# Altium schematic symbol library Ancient Schematics.SchLib: 609 symbols (part 2 of 3)
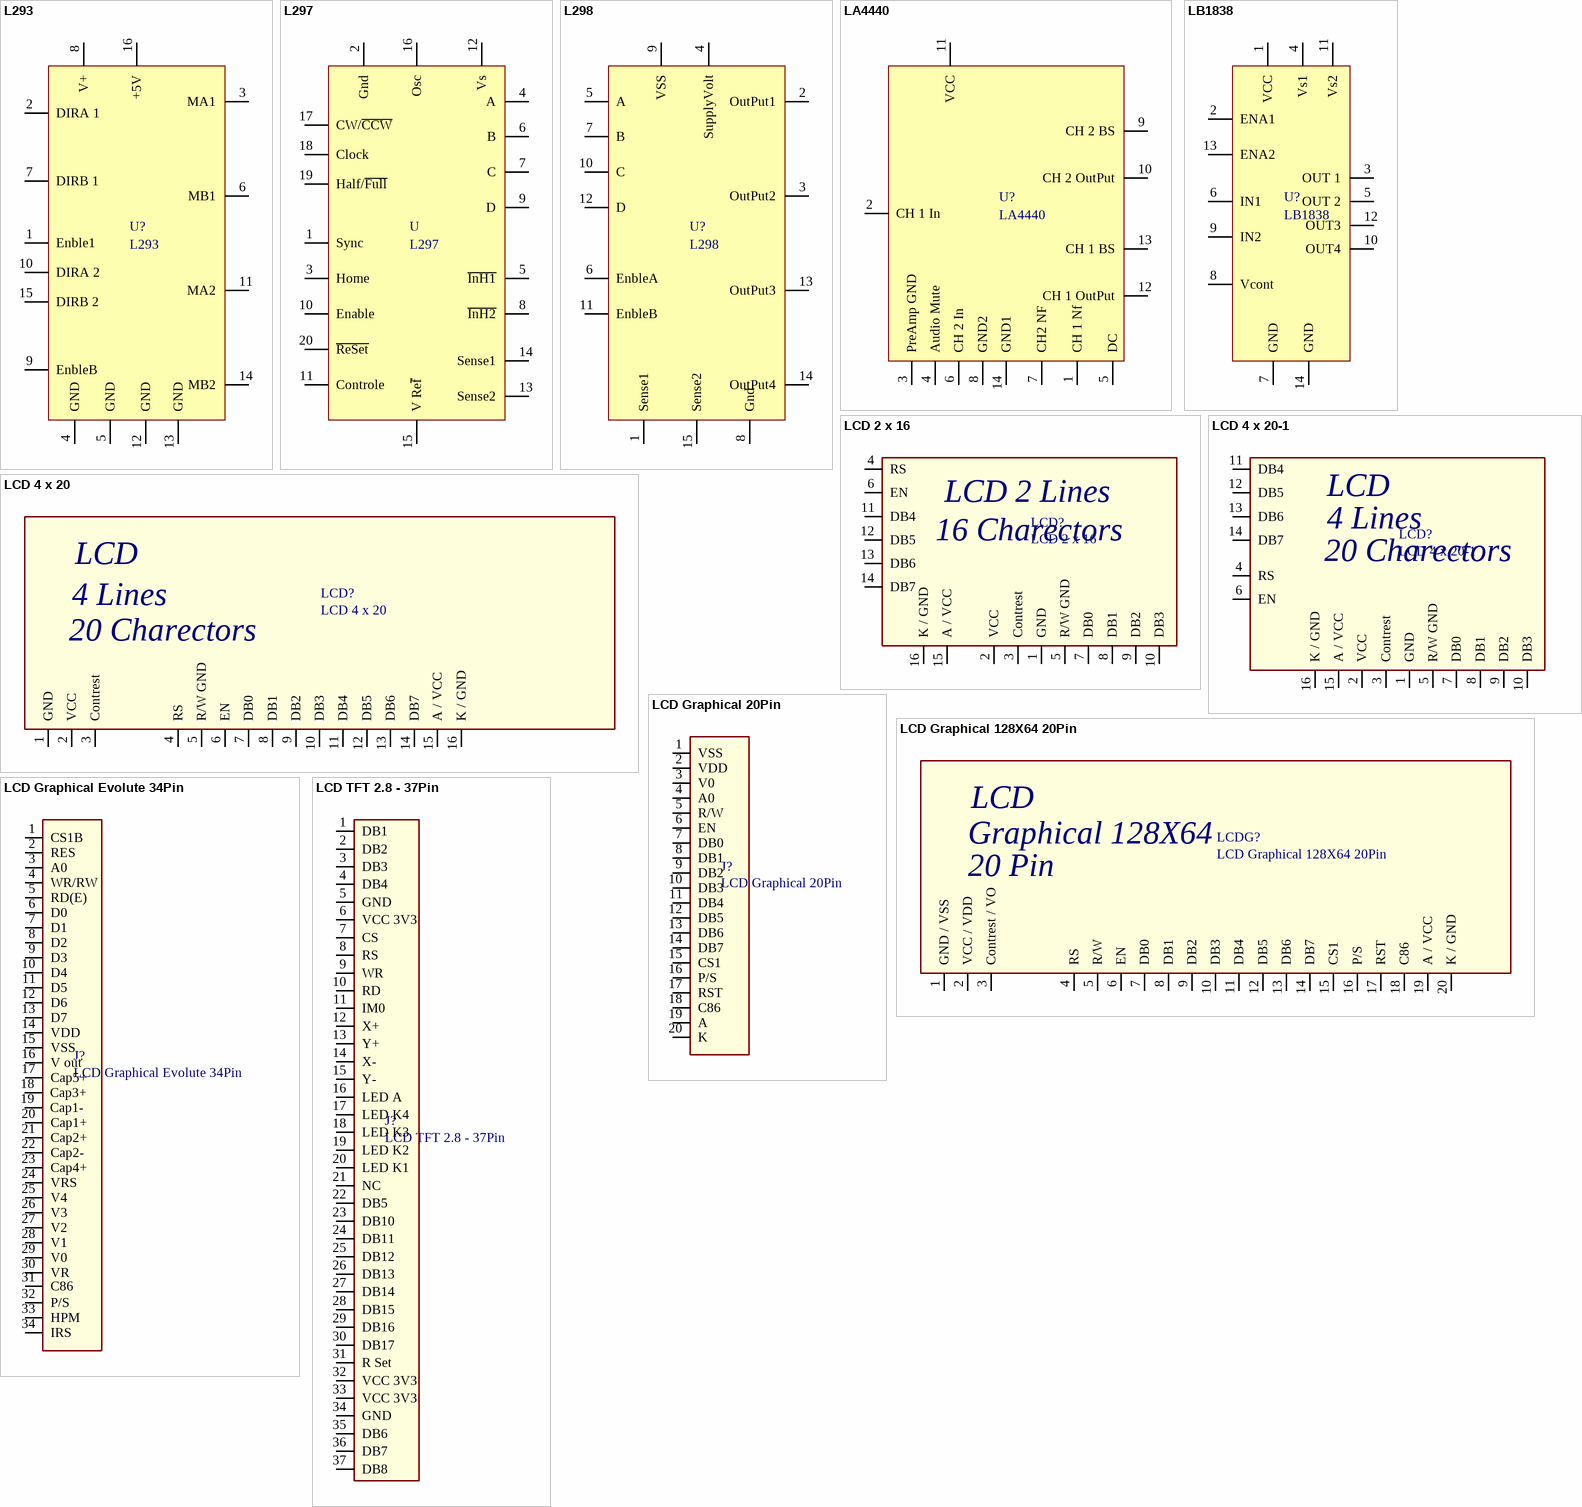
[diagram p45: symbols L293 to LCD TFT 2.8 - 37Pin]

## LCD Graphical 20Pin
designator J?
footprint LCD-Graphical-JHD12864E (Graphical LCD-18thApril2011)
pins: 1 VSS, 2 VDD, 3 V0, 4 A0, 5 R/W, 6 EN, 7 DB0, 8 DB1, 9 DB2, 10 DB3, 11 DB4, 12 DB5, 13 DB6, 14 DB7, 15 CS1, 16 P/S, 17 RST, 18 C86, 19 A, 20 K

## LCD Graphical 128X64 20Pin
designator LCDG?
footprint LCD-Graphical-JHD12864E-Connector Top (Graphical LCD-5thDec2011)
pins: 1 GND / VSS, 2 VCC / VDD, 3 Contrest / VO, 4 RS, 5 R/W, 6 EN, 7 DB0, 8 DB1, 9 DB2, 10 DB3, 11 DB4, 12 DB5, 13 DB6, 14 DB7, 15 CS1, 16 P/S, 17 RST, 18 C86, 19 A / VCC, 20 K / GND
text: LCD; Graphical 128X64; 20 Pin

## LCD Graphical Evolute 34Pin
designator J?
footprint LCD-Graphical-JHD12864E (Graphical LCD-18thApril2011)
pins: 1 CS1B, 2 RES, 3 A0, 4 WR/RW, 5 RD(E), 6 D0, 7 D1, 8 D2, 9 D3, 10 D4, 11 D5, 12 D6, 13 D7, 14 VDD, 15 VSS, 16 V out, 17 Cap5+, 18 Cap3+, 19 Cap1-, 20 Cap1+, 21 Cap2+, 22 Cap2-, 23 Cap4+, 24 VRS, 25 V4, 26 V3, 27 V2, 28 V1, 29 V0, 30 VR, 31 C86, 32 P/S, 33 HPM, 34 IRS

## LCD TFT 2.8 - 37Pin
designator J?
footprint LCD-TFT2.8 VT28CQH02 (LCD-TFT2.8 Inch VT28CQH02)
pins: 1 DB1, 2 DB2, 3 DB3, 4 DB4, 5 GND, 6 VCC 3V3, 7 CS, 8 RS, 9 WR, 10 RD, 11 IM0, 12 X+, 13 Y+, 14 X-, 15 Y-, 16 LED A, 17 LED K4, 18 LED K3, 19 LED K2, 20 LED K1, 21 NC, 22 DB5, 23 DB10, 24 DB11, 25 DB12, 26 DB13, 27 DB14, 28 DB15, 29 DB16, 30 DB17, 31 R Set, 32 VCC 3V3, 33 VCC 3V3, 34 GND, 35 DB6, 36 DB7, 37 DB8

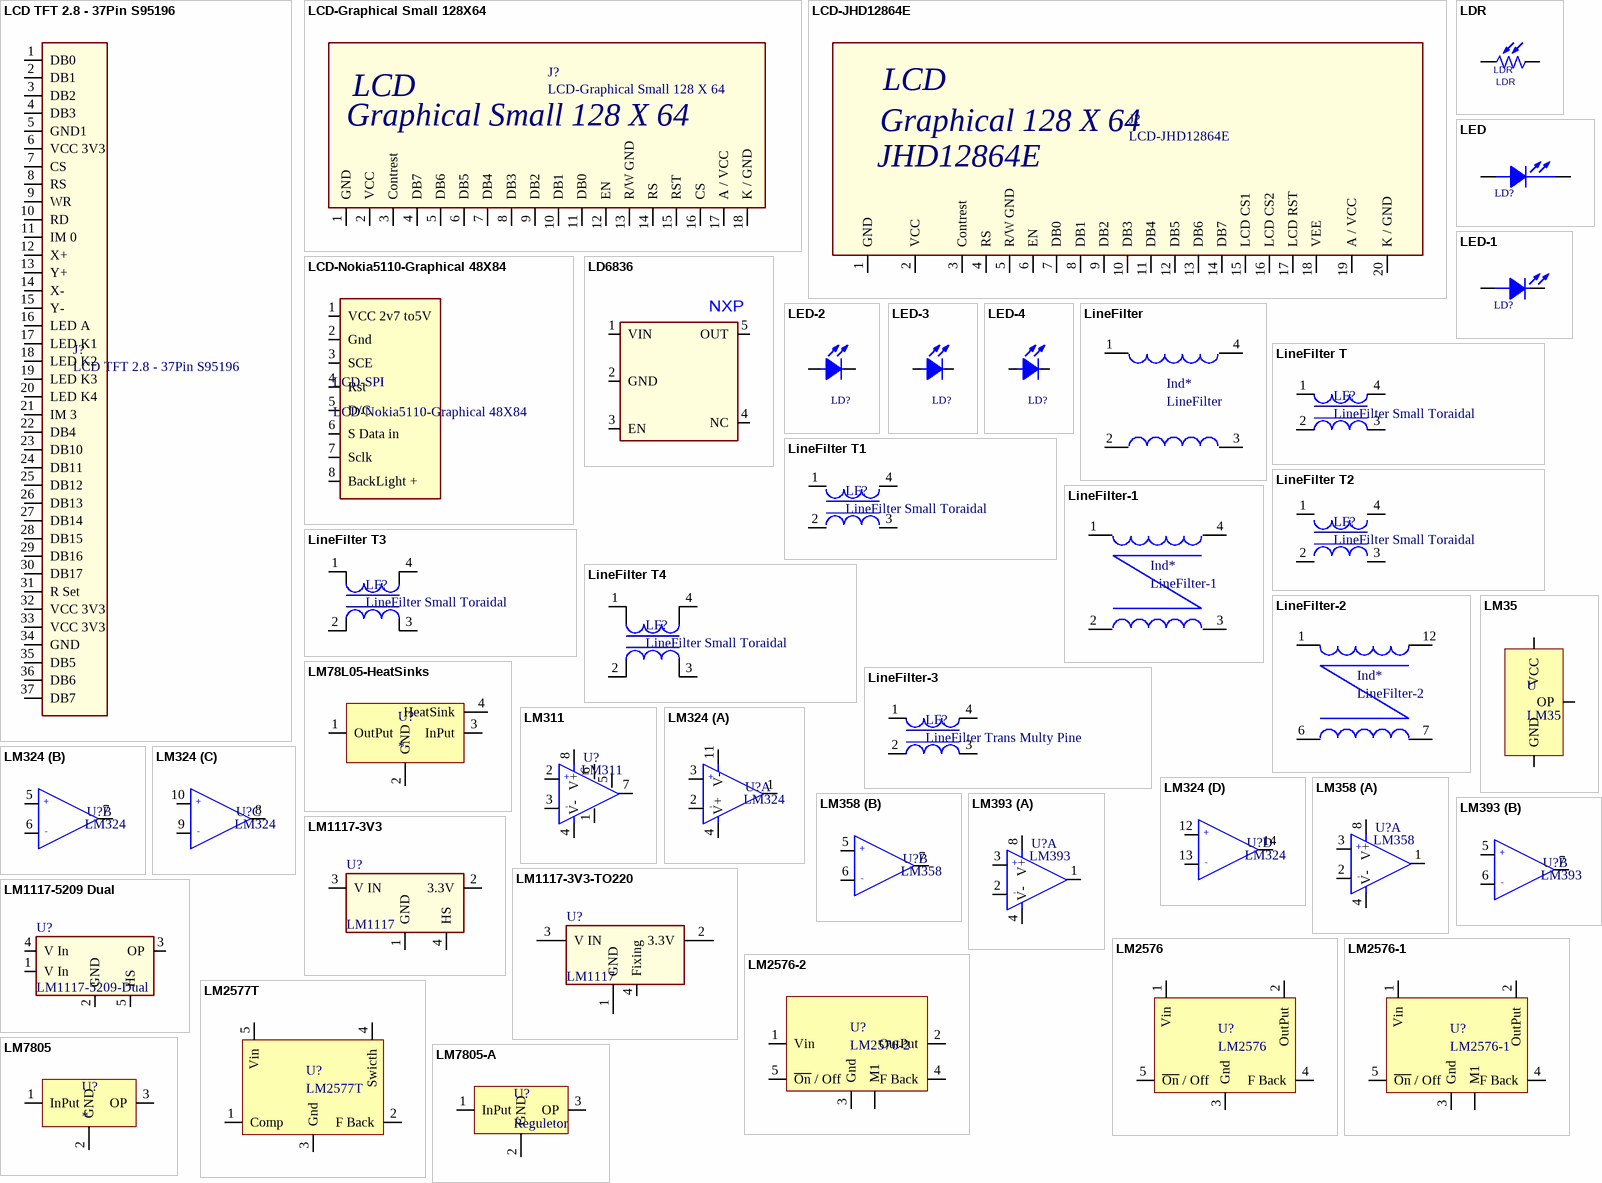
[diagram p18: symbols LCD TFT 2.8 - 37Pin S95196 to LM7805-A]

## LCD TFT 2.8 - 37Pin S95196
designator J?
LCD TFT 2.8 - 37Pin S95196 With Touch Screen
footprint LCD-TFT2.8 VT28CQH02 (LCD-TFT2.8 Inch VT28CQH02)
pins: 1 DB0, 2 DB1, 3 DB2, 4 DB3, 5 GND1, 6 VCC 3V3, 7 CS, 8 RS, 9 WR, 10 RD, 11 IM 0, 12 X+, 13 Y+, 14 X-, 15 Y-, 16 LED A, 17 LED K1, 18 LED K2, 19 LED K3, 20 LED K4, 21 IM 3, 22 DB4, 23 DB10, 24 DB11, 25 DB12, 26 DB13, 27 DB14, 28 DB15, 29 DB16, 30 DB17, 31 R Set, 32 VCC 3V3, 33 VCC 3V3, 34 GND, 35 DB5, 36 DB6, 37 DB7

## LCD-Graphical Small 128X64
designator J?, comment LCD-Graphical Small 128 X 64
pins: 1 GND, 2 VCC, 3 Contrest, 4 DB7, 5 DB6, 6 DB5, 7 DB4, 8 DB3, 9 DB2, 10 DB1, 11 DB0, 12 EN, 13 R/W GND, 14 RS, 15 RST, 16 CS, 17 A / VCC, 18 K / GND
text: LCD; Graphical Small 128 X 64

## LCD-JHD12864E
designator J?
footprint LCD-Graphical-JHD12864E-Connector Bottom (Graphical LCD-25thApril2011)
pins: 1 GND, 2 VCC, 3 Contrest, 4 RS, 5 R/W GND, 6 EN, 7 DB0, 8 DB1, 9 DB2, 10 DB3, 11 DB4, 12 DB5, 13 DB6, 14 DB7, 15 LCD CS1, 16 LCD CS2, 17 LCD RST, 18 VEE, 19 A / VCC, 20 K / GND
text: LCD; Graphical 128 X 64; JHD12864E

## LCD-Nokia5110-Graphical 48X84
designator LCD-SPI
pins: 1 VCC 2v7 to5V, 2 Gnd, 3 SCE, 4 Rst, 5 D/C, 6 S Data in, 7 Sclk, 8 BackLight +

## LD6836
designator U?
pins: 1 VIN, 2 GND, 3 EN, 4 NC, 5 OUT
text: NXP

## LDR
designator LDR
footprint LED5MM (Footprint not found)
pins: 1, 2

## LED
designator LD?  (value not drawn)
footprint LED3MM
pins: 1 ANODE, 2 CATHODE

## LED-1
designator LD?  (value not drawn)
footprint LED3MM
pins: 1 ANODE, 2 CATHODE

## LED-2
designator LD?, comment LED  (value not drawn)
footprint LED3MM
footprint 1206-LED-Mid (1206-LED)
footprint 1206-LED-small (1206-LED)
pins: 1 ANODE, 2 CATHODE

## LED-3
designator LD?, comment LED  (value not drawn)
footprint LED3MM
footprint 1206-LED-Mid (1206-LED)
footprint 1206-LED-small (1206-LED)
pins: 1 ANODE, 2 CATHODE

## LED-4
designator LD?, comment LED  (value not drawn)
pins: 1 ANODE, 2 CATHODE

## LineFilter
designator Ind*
pins: 1, 2, 3, 4

## LineFilter T
designator LF?, comment LineFilter Small Toraidal
pins: 1, 2, 3, 4

## LineFilter T1
designator LF?, comment LineFilter Small Toraidal
pins: 1, 2, 3, 4

## LineFilter T2
designator LF?, comment LineFilter Small Toraidal
pins: 1, 2, 3, 4

## LineFilter T3
designator LF?, comment LineFilter Small Toraidal
pins: 1, 2, 3, 4

## LineFilter T4
designator LF?, comment LineFilter Small Toraidal
pins: 1, 2, 3, 4

## LineFilter-1
designator Ind*
pins: 1, 2, 3, 4

## LineFilter-2
designator Ind*
footprint FerretCore EE 55 X 55 X 20MM-12Pins
pins: 1, 2, 5, 6, 7, 8, 11, 12

## LineFilter-3
designator LF?, comment LineFilter Trans Multy Pine
LineFilter Trans Multy Pins 8Pins
footprint EE36 X 29 VERTICAL 4PINS-Multy (Line Filter EE36 X 29 VERTICAL 4PINS-Multy)
pins: 1, 2, 3, 4, 5, 6, 7, 8

## LM35
designator U
footprint TO92-LM35-Leaded
pins: 1 VCC, 2 OP, 3 GND

## LM78L05-HeatSinks
designator U?
footprint SOT223-2 (SOT223-2 Regulators LM1117)
pins: 1 OutPut, 2 GND, 3 InPut, 4 HeatSink

## LM311
designator U?
footprint Dip-8
pins: 1 OUT, 2 IN+, 3 IN-, 4 V-, 5, 6, 7 OUT, 8 V+
text: +; -

## LM324
designator U?
footprint Dip-14
part A pins: 1 OUT, 2 IN-, 3 IN+, 4 V+, 11 V-
part B pins: 5 IN+, 6 IN-, 7 OUT
part C pins: 8 3OUT, 9 IN-, 10 IN+
part D pins: 12 IN+, 13 IN-, 14 4OUT
part A text: +; -
part B text: +; -
part C text: +; -
part D text: +; -

## LM358
designator U?
footprint Dip-8
part A pins: 1 OUT, 2 IN-, 3 IN+, 4 V-, 8 V+
part B pins: 5 IN+, 6 IN-, 7 OUT
part A text: +; -
part B text: +; -

## LM393
designator U?
footprint Dip-8
part A pins: 1 OUT, 2 IN-, 3 IN+, 4 V-, 8 V+
part B pins: 5 IN+, 6 IN-, 7 OUT
part A text: +; -
part B text: +; -

## LM1117-3V3
designator U?, comment LM1117
pins: 1 GND, 2 3.3V, 3 V IN, 4 HS

## LM1117-3V3-TO220
designator U?, comment LM1117
footprint TO220-3Pin-SMD
pins: 1 GND, 2 3.3V, 3 V IN, 4 Fixing

## LM1117-5209 Dual
designator U?, comment LM1117-5209-Dual
footprint SOT223-DUAL-Reg (5209 / LM1117 /)
pins: 1 V In, 2 GND, 3 OP, 4 V In, 5 HS

## LM2576
designator U?
footprint TO220-5 LM2576 (Footprint not found)
pins: 1 Vin, 2 OutPut, 3 Gnd, 4 F Back, 5 ~{On} / Off

## LM2576-1
designator U?
LM2576
footprint TO220-5 LM2576 (Footprint not found)
pins: 1 Vin, 2 OutPut, 3 Gnd, 4 F Back, 5 ~{On} / Off, M1

## LM2576-2
designator U?
LM2576
footprint TO220-5 LM2576 (Footprint not found)
pins: 1 Vin, 2 OutPut, 3 Gnd, 4 F Back, 5 ~{On} / Off, M1

## LM2577T
designator U?
footprint TO220-5 LM2577 (Footprint not found)
pins: 1 Comp, 2 F Back, 3 Gnd, 4 Swicth, 5 Vin

## LM7805
designator U?
pins: 1 InPut, 2 GND, 3 OP

## LM7805-A
designator U?, comment Reguletor
footprint TO220-3Pin - (TO220-3Pin)
pins: 1 InPut, 2 GND, 3 OP

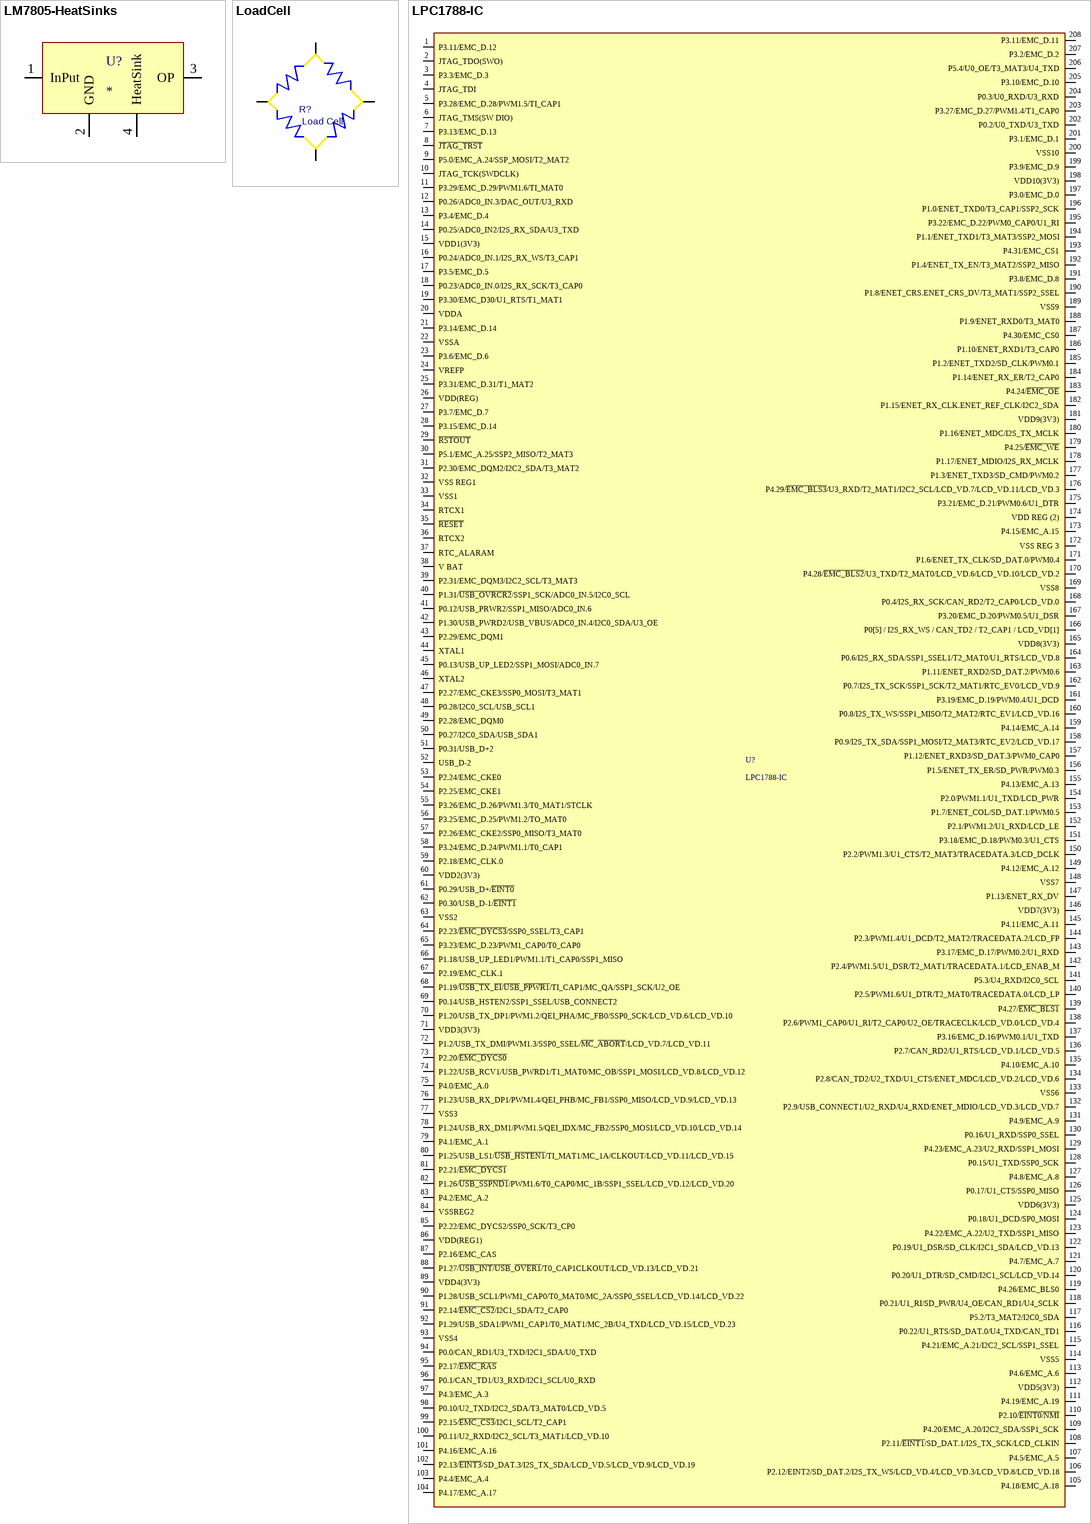
[diagram p19: symbols LM7805-HeatSinks to LPC1788-IC]

## LM7805-HeatSinks
designator U?
pins: 1 InPut, 2 GND, 3 OP, 4 HeatSink

## LoadCell
designator R?, comment Load Cell
footprint ResH10MM
footprint RMC4W (RMC4Way Connector 2.54Picth)
pins: 1, 2 E+, 3 E-, 4

## LPC1788-IC
designator U?
pins: 1 P3.11/EMC_D.12, 2 JTAG_TDO(SWO), 3 P3.3/EMC_D.3, 4 JTAG_TDI, 5 P3.28/EMC_D.28/PWM1.5/TI_CAP1, 6 JTAG_TMS(SW DIO), 7 P3.13/EMC_D.13, 8 ~{JTAG_TRST}, 9 P5.0/EMC_A.24/SSP_MOSI/T2_MAT2, 10 JTAG_TCK(SWDCLK), 11 P3.29/EMC_D.29/PWM1.6/TI_MAT0, 12 P0.26/ADC0_IN.3/DAC_OUT/U3_RXD, 13 P3.4/EMC_D.4, 14 P0.25/ADC0_IN2/I2S_RX_SDA/U3_TXD, 15 VDD1(3V3), 16 P0.24/ADC0_IN.1/I2S_RX_WS/T3_CAP1, 17 P3.5/EMC_D.5, 18 P0.23/ADC0_IN.0/I2S_RX_SCK/T3_CAP0, 19 P3.30/EMC_D30/U1_RTS/T1_MAT1, 20 VDDA, 21 P3.14/EMC_D.14, 22 VSSA, 23 P3.6/EMC_D.6, 24 VREFP, 25 P3.31/EMC_D.31/T1_MAT2, 26 VDD(REG), 27 P3.7/EMC_D.7, 28 P3.15/EMC_D.14, 29 ~{RSTOUT}, 30 P5.1/EMC_A.25/SSP2_MISO/T2_MAT3, 31 P2.30/EMC_DQM2/I2C2_SDA/T3_MAT2, 32 VSS REG1, 33 VSS1, 34 RTCX1, 35 ~{RESET}, 36 RTCX2, 37 RTC_ALARAM, 38 V BAT, 39 P2.31/EMC_DQM3/I2C2_SCL/T3_MAT3, 40 P1.31/~{USB_OVRCR2}/SSP1_SCK/ADC0_IN.5/I2C0_SCL, 41 P0.12/USB_PRWR2/SSP1_MISO/ADC0_IN.6, 42 P1.30/USB_PWRD2/USB_VBUS/ADC0_IN.4/I2C0_SDA/U3_OE, 43 P2.29/EMC_DQM1, 44 XTAL1, 45 P0.13/USB_UP_LED2/SSP1_MOSI/ADC0_IN.7, 46 XTAL2, 47 P2.27/EMC_CKE3/SSP0_MOSI/T3_MAT1, 48 P0.28/I2C0_SCL/USB_SCL1, 49 P2.28/EMC_DQM0, 50 P0.27/I2C0_SDA/USB_SDA1, 51 P0.31/USB_D+2, 52 USB_D-2, 53 P2.24/EMC_CKE0, 54 P2.25/EMC_CKE1, 55 P3.26/EMC_D.26/PWM1.3/T0_MAT1/STCLK, 56 P3.25/EMC_D.25/PWM1.2/TO_MAT0, 57 P2.26/EMC_CKE2/SSP0_MISO/T3_MAT0, 58 P3.24/EMC_D.24/PWM1.1/T0_CAP1, 59 P2.18/EMC_CLK.0, 60 VDD2(3V3), 61 P0.29/USB_D+/~{EINT0}, 62 P0.30/USB_D-1/~{EINT1}, 63 VSS2, 64 P2.23/~{EMC_DYCS3}/SSP0_SSEL/T3_CAP1, 65 P3.23/EMC_D.23/PWM1_CAP0/T0_CAP0, 66 P1.18/USB_UP_LED1/PWM1.1/T1_CAP0/SSP1_MISO, 67 P2.19/EMC_CLK.1, 68 P1.19/~{USB_TX}_~{EI}/~{USB}_~{PPWR1}/TI_CAP1/MC_QA/SSP1_SCK/U2_OE, 69 P0.14/USB_HSTEN2/SSP1_SSEL/USB_CONNECT2, 70 P1.20/USB_TX_DP1/PWM1.2/QEI_PHA/MC_FB0/SSP0_SCK/LCD_VD.6/LCD_VD.10, 71 VDD3(3V3), 72 P1.2/USB_TX_DMI/PWM1.3/SSP0_SSEL/~{MC}_~{ABORT}/LCD_VD.7/LCD_VD.11, 73 P2.20/~{EMC_DYCS0}, 74 P1.22/USB_RCV1/USB_PWRD1/T1_MAT0/MC_OB/SSP1_MOSI/LCD_VD.8/LCD_VD.12, 75 P4.0/EMC_A.0, 76 P1.23/USB_RX_DP1/PWM1.4/QEI_PHB/MC_FB1/SSP0_MISO/LCD_VD.9/LCD_VD.13, 77 VSS3, 78 P1.24/USB_RX_DM1/PWM1.5/QEI_IDX/MC_FB2/SSP0_MOSI/LCD_VD.10/LCD_VD.14, 79 P4.1/EMC_A.1, 80 P1.25/USB_LS1/~{USB}_~{HSTEN1}/TI_MAT1/MC_1A/CLKOUT/LCD_VD.11/LCD_VD.15, 81 P2.21/~{EMC_DYCS1}, 82 P1.26/~{USB_SSPND1}/PWM1.6/T0_CAP0/MC_1B/SSP1_SSEL/LCD_VD.12/LCD_VD.20, 83 P4.2/EMC_A.2, 84 VSSREG2, 85 P2.22/EMC_DYCS2/SSP0_SCK/T3_CP0, 86 VDD(REG1), 87 P2.16/EMC_CAS, 88 P1.27/~{USB_INT/USB}_~{OVER1}/T0_CAP1CLKOUT/LCD_VD.13/LCD_VD.21, 89 VDD4(3V3), 90 P1.28/USB_SCL1/PWM1_CAP0/T0_MAT0/MC_2A/SSP0_SSEL/LCD_VD.14/LCD_VD.22, 91 P2.14/~{EMC_CS2}/I2C1_SDA/T2_CAP0, 92 P1.29/USB_SDA1/PWM1_CAP1/T0_MAT1/MC_2B/U4_TXD/LCD_VD.15/LCD_VD.23, 93 VSS4, 94 P0.0/CAN_RD1/U3_TXD/I2C1_SDA/U0_TXD, 95 P2.17/~{EMC_RAS}, 96 P0.1/CAN_TD1/U3_RXD/I2C1_SCL/U0_RXD, 97 P4.3/EMC_A.3, 98 P0.10/U2_TXD/I2C2_SDA/T3_MAT0/LCD_VD.5, 99 P2.15/~{EMC_CS3}/I2C1_SCL/T2_CAP1, 100 P0.11/U2_RXD/I2C2_SCL/T3_MAT1/LCD_VD.10, 101 P4.16/EMC_A.16, 102 P2.13/~{EINT3}/SD_DAT.3/I2S_TX_SDA/LCD_VD.5/LCD_VD.9/LCD_VD.19, 103 P4.4/EMC_A.4, 104 P4.17/EMC_A.17, 105 P4.18/EMC_A.18, 106 P2.12/EINT2/SD_DAT.2/I2S_TX_WS/LCD_VD.4/LCD_VD.3/LCD_VD.8/LCD_VD.18, 107 P4.5/EMC_A.5, 108 P2.11/~{EINT1}/SD_DAT.1/I2S_TX_SCK/LCD_CLKIN, 109 P4.20/EMC_A.20/I2C2_SDA/SSP1_SCK, 110 P2.10/~{EINT0/NMI}, 111 P4.19/EMC_A.19, 112 VDD5(3V3), 113 P4.6/EMC_A.6, 114 VSS5, 115 P4.21/EMC_A.21/I2C2_SCL/SSP1_SSEL, 116 P0.22/U1_RTS/SD_DAT.0/U4_TXD/CAN_TD1, 117 P5.2/T3_MAT2/I2C0_SDA, 118 P0.21/U1_RI/SD_PWR/U4_OE/CAN_RD1/U4_SCLK, 119 P4.26/EMC_BLS0, 120 P0.20/U1_DTR/SD_CMD/I2C1_SCL/LCD_VD.14, 121 P4.7/EMC_A.7, 122 P0.19/U1_DSR/SD_CLK/I2C1_SDA/LCD_VD.13, 123 P4.22/EMC_A.22/U2_TXD/SSP1_MISO, 124 P0.18/U1_DCD/SP0_MOSI, 125 VDD6(3V3), 126 P0.17/U1_CTS/SSP0_MISO, 127 P4.8/EMC_A.8, 128 P0.15/U1_TXD/SSP0_SCK, 129 P4.23/EMC_A.23/U2_RXD/SSP1_MOSI, 130 P0.16/U1_RXD/SSP0_SSEL, 131 P4.9/EMC_A.9, 132 P2.9/USB_CONNECT1/U2_RXD/U4_RXD/ENET_MDIO/LCD_VD.3/LCD_VD.7, 133 VSS6, 134 P2.8/CAN_TD2/U2_TXD/U1_CTS/ENET_MDC/LCD_VD.2/LCD_VD.6, 135 P4.10/EMC_A.10, 136 P2.7/CAN_RD2/U1_RTS/LCD_VD.1/LCD_VD.5, 137 P3.16/EMC_D.16/PWM0.1/U1_TXD, 138 P2.6/PWM1_CAP0/U1_RI/T2_CAP0/U2_OE/TRACECLK/LCD_VD.0/LCD_VD.4, 139 P4.27/~{EMC_BLS1}, 140 P2.5/PWM1.6/U1_DTR/T2_MAT0/TRACEDATA.0/LCD_LP, 141 P5.3/U4_RXD/I2C0_SCL, 142 P2.4/PWM1.5/U1_DSR/T2_MAT1/TRACEDATA.1/LCD_ENAB_M, 143 P3.17/EMC_D.17/PWM0.2/U1_RXD, 144 P2.3/PWM1.4/U1_DCD/T2_MAT2/TRACEDATA.2/LCD_FP, 145 P4.11/EMC_A.11, 146 VDD7(3V3), 147 P1.13/ENET_RX_DV, 148 VSS7, 149 P4.12/EMC_A.12, 150 P2.2/PWM1.3/U1_CTS/T2_MAT3/TRACEDATA.3/LCD_DCLK, 151 P3.18/EMC_D.18/PWM0.3/U1_CTS, 152 P2.1/PWM1.2/U1_RXD/LCD_LE, 153 P1.7/ENET_COL/SD_DAT.1/PWM0.5, 154 P2.0/PWM1.1/U1_TXD/LCD_PWR, 155 P4.13/EMC_A.13, 156 P1.5/ENET_TX_ER/SD_PWR/PWM0.3, 157 P1.12/ENET_RXD3/SD_DAT.3/PWM0_CAP0, 158 P0.9/I2S_TX_SDA/SSP1_MOSI/T2_MAT3/RTC_EV2/LCD_VD.17, 159 P4.14/EMC_A.14, 160 P0.8/I2S_TX_WS/SSP1_MISO/T2_MAT2/RTC_EV1/LCD_VD.16, 161 P3.19/EMC_D.19/PWM0.4/U1_DCD, 162 P0.7/I2S_TX_SCK/SSP1_SCK/T2_MAT1/RTC_EV0/LCD_VD.9, 163 P1.11/ENET_RXD2/SD_DAT.2/PWM0.6, 164 P0.6/I2S_RX_SDA/SSP1_SSEL1/T2_MAT0/U1_RTS/LCD_VD.8, 165 VDD8(3V3), 166 P0[5] / I2S_RX_WS / CAN_TD2 / T2_CAP1 / LCD_VD[1], 167 P3.20/EMC_D.20/PWM0.5/U1_DSR, 168 P0.4/I2S_RX_SCK/CAN_RD2/T2_CAP0/LCD_VD.0, 169 VSS8, 170 P4.28/~{EMC_BLS2}/U3_TXD/T2_MAT0/LCD_VD.6/LCD_VD.10/LCD_VD.2, 171 P1.6/ENET_TX_CLK/SD_DAT.0/PWM0.4, 172 VSS REG 3, 173 P4.15/EMC_A.15, 174 VDD REG (2), 175 P3.21/EMC_D.21/PWM0.6/U1_DTR, 176 P4.29/~{EMC_BLS3}/U3_RXD/T2_MAT1/I2C2_SCL/LCD_VD.7/LCD_VD.11/LCD_VD.3, 177 P1.3/ENET_TXD3/SD_CMD/PWM0.2, 178 P1.17/ENET_MDIO/I2S_RX_MCLK, 179 P4.25/~{EMC_WE}, 180 P1.16/ENET_MDC/I2S_TX_MCLK, 181 VDD9(3V3), 182 P1.15/ENET_RX_CLK.ENET_REF_CLK/I2C2_SDA, 183 P4.24/~{EMC_OE}, 184 P1.14/ENET_RX_ER/T2_CAP0, 185 P1.2/ENET_TXD2/SD_CLK/PWM0.1, 186 P1.10/ENET_RXD1/T3_CAP0, 187 P4.30/EMC_CS0, 188 P1.9/ENET_RXD0/T3_MAT0, 189 VSS9, 190 P1.8/ENET_CRS.ENET_CRS_DV/T3_MAT1/SSP2_SSEL, 191 P3.8/EMC_D.8, 192 P1.4/ENET_TX_EN/T3_MAT2/SSP2_MISO, 193 P4.31/EMC_CS1, 194 P1.1/ENET_TXD1/T3_MAT3/SSP2_MOSI, 195 P3.22/EMC_D.22/PWM0_CAP0/U1_RI, 196 P1.0/ENET_TXD0/T3_CAP1/SSP2_SCK, 197 P3.0/EMC_D.0, 198 VDD10(3V3), 199 P3.9/EMC_D.9, 200 VSS10, 201 P3.1/EMC_D.1, 202 P0.2/U0_TXD/U3_TXD, 203 P3.27/EMC_D.27/PWM1.4/T1_CAP0, 204 P0.3/U0_RXD/U3_RXD, 205 P3.10/EMC_D.10, 206 P5.4/U0_OE/T3_MAT3/U4_TXD, 207 P3.2/EMC_D.2, 208 P3.11/EMC_D.11

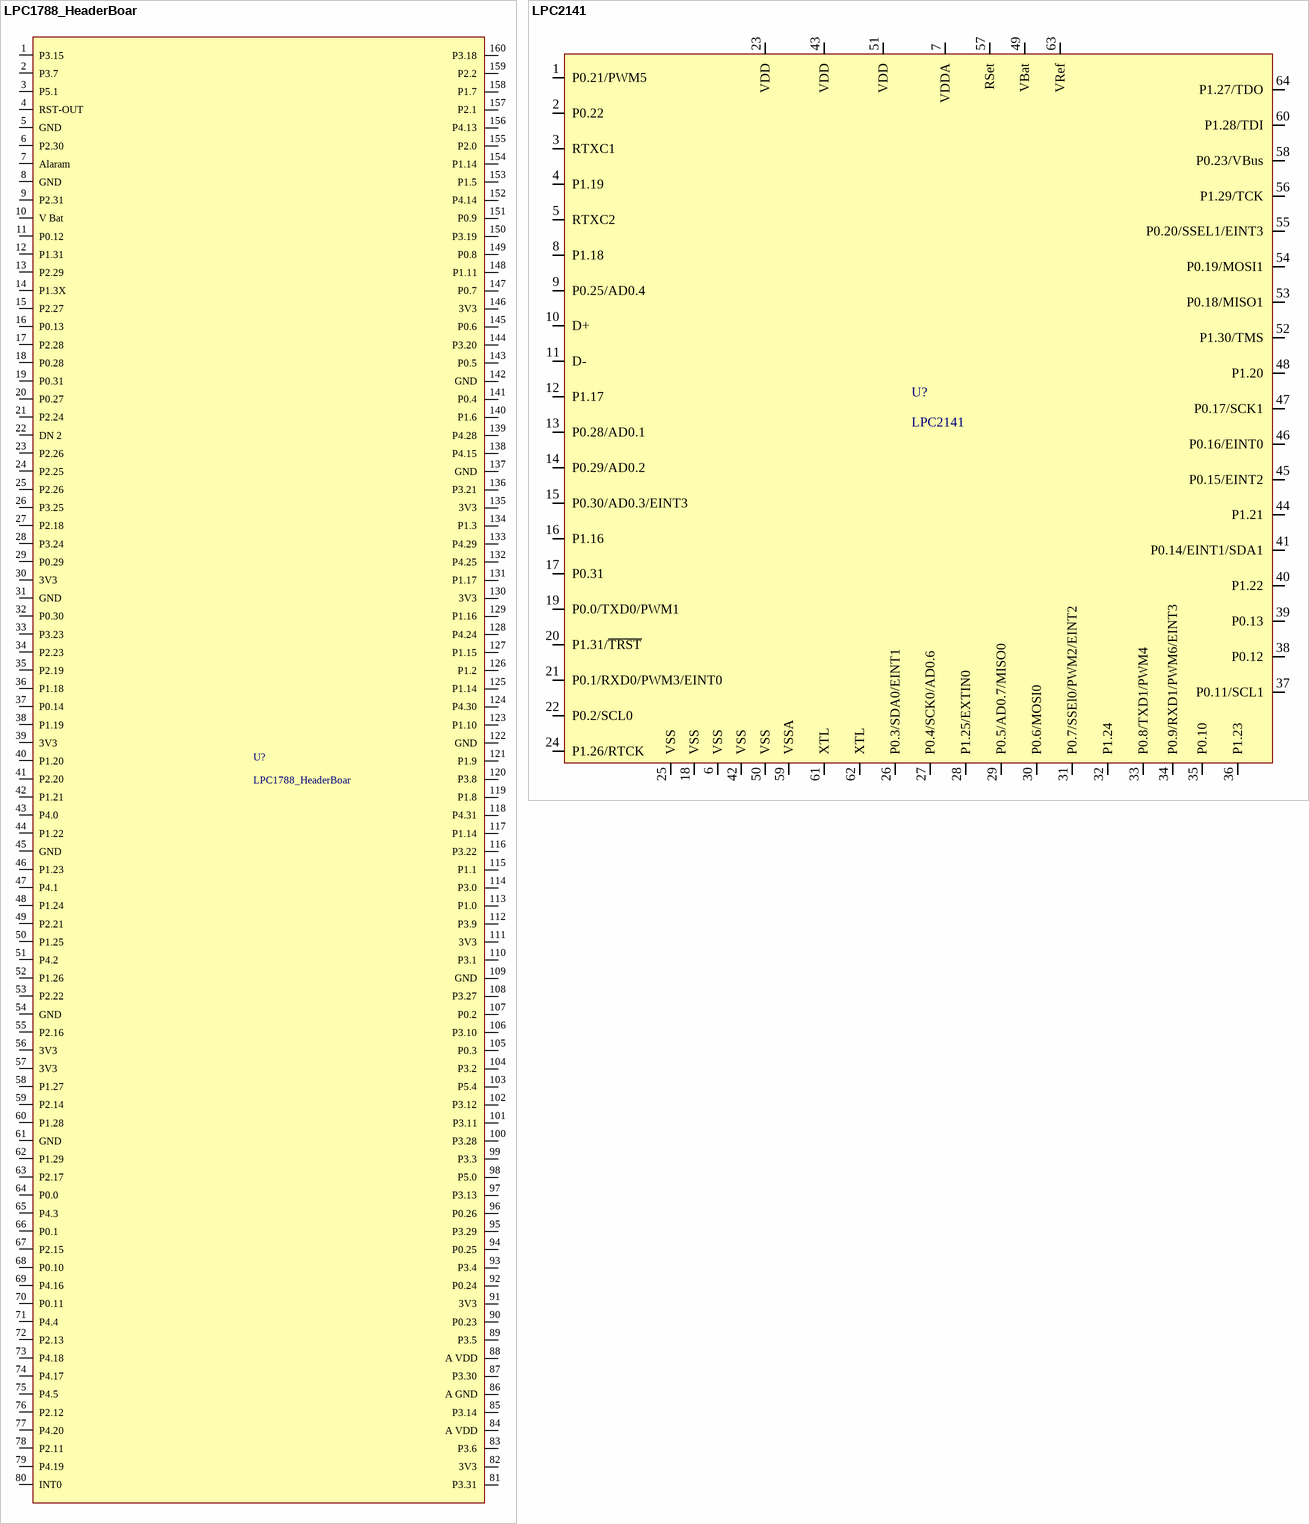
[diagram p20: symbols LPC1788_HeaderBoar to LPC2141]

## LPC1788_HeaderBoar
designator U?
pins: 1 P3.15, 2 P3.7, 3 P5.1, 4 RST-OUT, 5 GND, 6 P2.30, 7 Alaram, 8 GND, 9 P2.31, 10 V Bat, 11 P0.12, 12 P1.31, 13 P2.29, 14 P1.3X, 15 P2.27, 16 P0.13, 17 P2.28, 18 P0.28, 19 P0.31, 20 P0.27, 21 P2.24, 22 DN 2, 23 P2.26, 24 P2.25, 25 P2.26, 26 P3.25, 27 P2.18, 28 P3.24, 29 P0.29, 30 3V3, 31 GND, 32 P0.30, 33 P3.23, 34 P2.23, 35 P2.19, 36 P1.18, 37 P0.14, 38 P1.19, 39 3V3, 40 P1.20, 41 P2.20, 42 P1.21, 43 P4.0, 44 P1.22, 45 GND, 46 P1.23, 47 P4.1, 48 P1.24, 49 P2.21, 50 P1.25, 51 P4.2, 52 P1.26, 53 P2.22, 54 GND, 55 P2.16, 56 3V3, 57 3V3, 58 P1.27, 59 P2.14, 60 P1.28, 61 GND, 62 P1.29, 63 P2.17, 64 P0.0, 65 P4.3, 66 P0.1, 67 P2.15, 68 P0.10, 69 P4.16, 70 P0.11, 71 P4.4, 72 P2.13, 73 P4.18, 74 P4.17, 75 P4.5, 76 P2.12, 77 P4.20, 78 P2.11, 79 P4.19, 80 INT0, 81 P3.31, 82 3V3, 83 P3.6, 84 A VDD, 85 P3.14, 86 A GND, 87 P3.30, 88 A VDD, 89 P3.5, 90 P0.23, 91 3V3, 92 P0.24, 93 P3.4, 94 P0.25, 95 P3.29, 96 P0.26, 97 P3.13, 98 P5.0, 99 P3.3, 100 P3.28, 101 P3.11, 102 P3.12, 103 P5.4, 104 P3.2, 105 P0.3, 106 P3.10, 107 P0.2, 108 P3.27, 109 GND, 110 P3.1, 111 3V3, 112 P3.9, 113 P1.0, 114 P3.0, 115 P1.1, 116 P3.22, 117 P1.14, 118 P4.31, 119 P1.8, 120 P3.8, 121 P1.9, 122 GND, 123 P1.10, 124 P4.30, 125 P1.14, 126 P1.2, 127 P1.15, 128 P4.24, 129 P1.16, 130 3V3, 131 P1.17, 132 P4.25, 133 P4.29, 134 P1.3, 135 3V3, 136 P3.21, 137 GND, 138 P4.15, 139 P4.28, 140 P1.6, 141 P0.4, 142 GND, 143 P0.5, 144 P3.20, 145 P0.6, 146 3V3, 147 P0.7, 148 P1.11, 149 P0.8, 150 P3.19, 151 P0.9, 152 P4.14, 153 P1.5, 154 P1.14, 155 P2.0, 156 P4.13, 157 P2.1, 158 P1.7, 159 P2.2, 160 P3.18

## LPC2141
designator U?
pins: 1 P0.21/PWM5, 2 P0.22, 3 RTXC1, 4 P1.19, 5 RTXC2, 6 VSS, 7 VDDA, 8 P1.18, 9 P0.25/AD0.4, 10 D+, 11 D-, 12 P1.17, 13 P0.28/AD0.1, 14 P0.29/AD0.2, 15 P0.30/AD0.3/EINT3, 16 P1.16, 17 P0.31, 18 VSS, 19 P0.0/TXD0/PWM1, 20 P1.31/~{TRST}, 21 P0.1/RXD0/PWM3/EINT0, 22 P0.2/SCL0, 23 VDD, 24 P1.26/RTCK, 25 VSS, 26 P0.3/SDA0/EINT1, 27 P0.4/SCK0/AD0.6, 28 P1.25/EXTIN0, 29 P0.5/AD0.7/MISO0, 30 P0.6/MOSI0, 31 P0.7/SSEl0/PWM2/EINT2, 32 P1.24, 33 P0.8/TXD1/PWM4, 34 P0.9/RXD1/PWM6/EINT3, 35 P0.10, 36 P1.23, 37 P0.11/SCL1, 38 P0.12, 39 P0.13, 40 P1.22, 41 P0.14/EINT1/SDA1, 42 VSS, 43 VDD, 44 P1.21, 45 P0.15/EINT2, 46 P0.16/EINT0, 47 P0.17/SCK1, 48 P1.20, 49 VBat, 50 VSS, 51 VDD, 52 P1.30/TMS, 53 P0.18/MISO1, 54 P0.19/MOSI1, 55 P0.20/SSEL1/EINT3, 56 P1.29/TCK, 57 RSet, 58 P0.23/VBus, 59 VSSA, 60 P1.28/TDI, 61 XTL, 62 XTL, 63 VRef, 64 P1.27/TDO

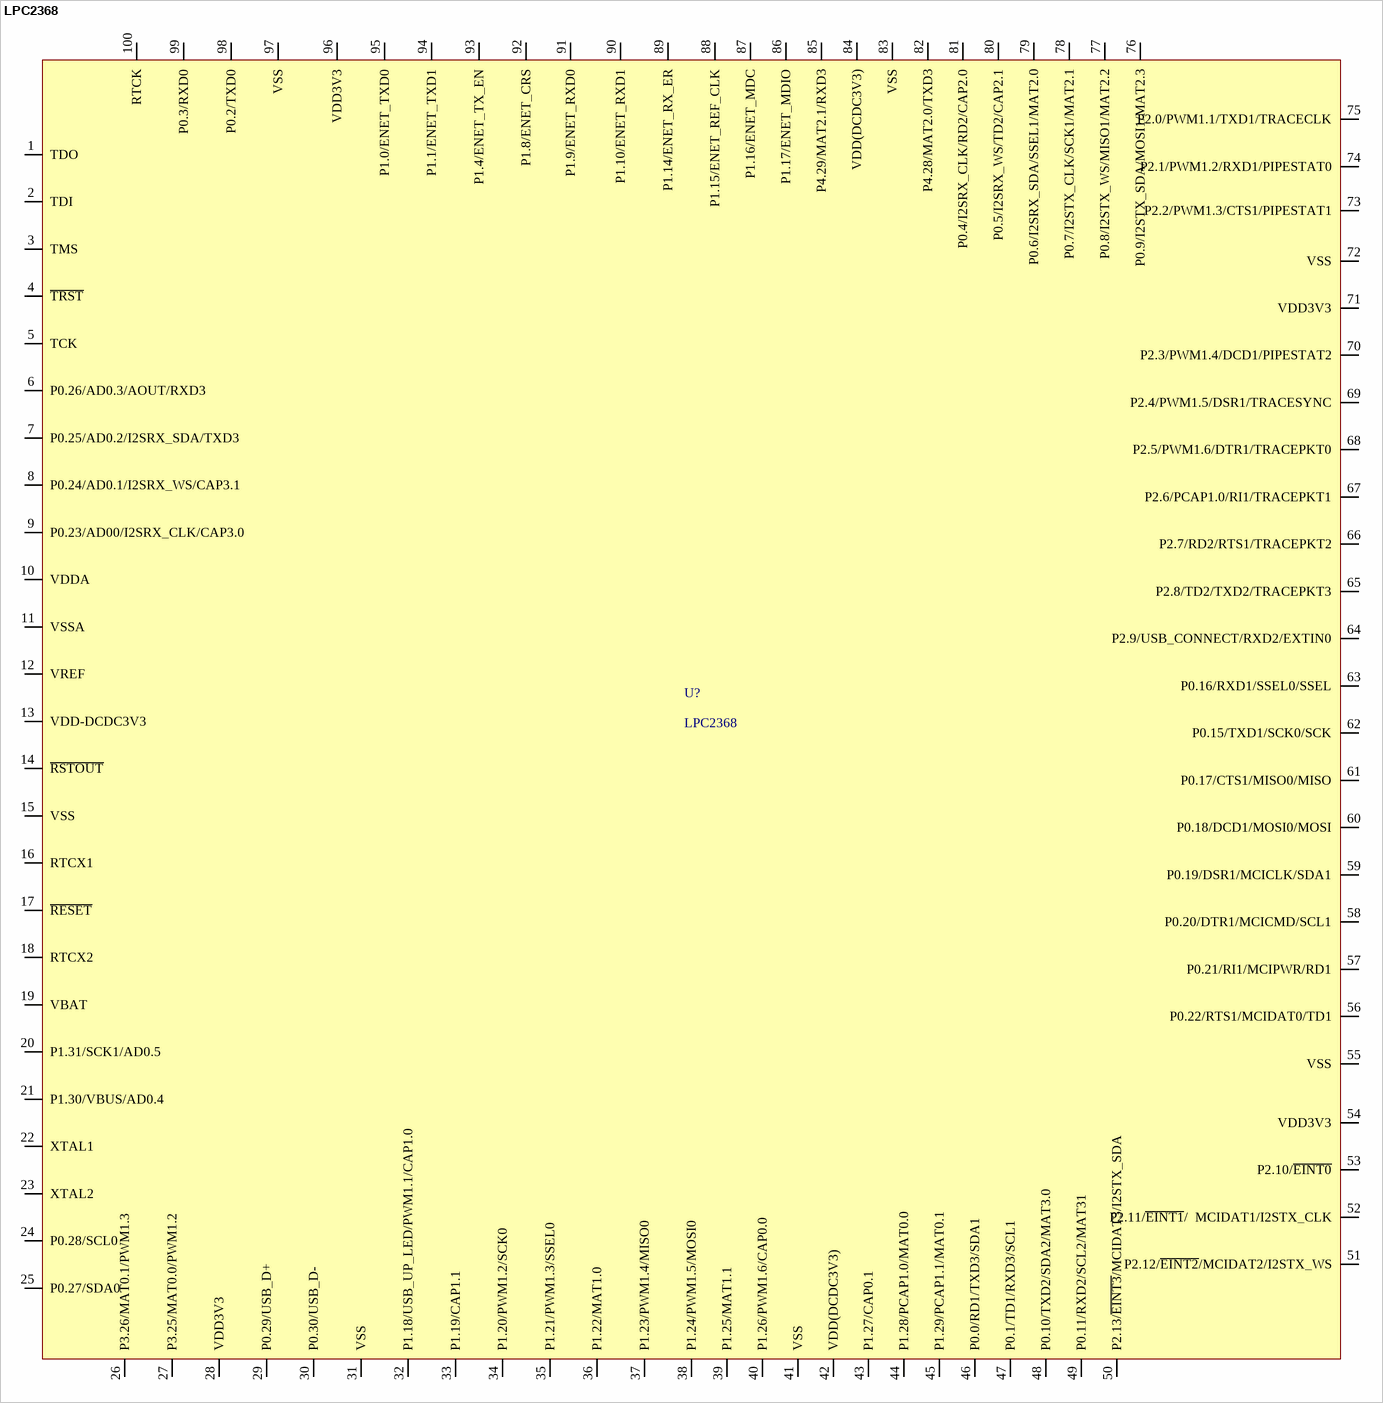
[diagram p21: symbol LPC2368]

## LPC2368
designator U?
pins: 1 TDO, 2 TDI, 3 TMS, 4 ~{TRST}, 5 TCK, 6 P0.26/AD0.3/AOUT/RXD3, 7 P0.25/AD0.2/I2SRX_SDA/TXD3, 8 P0.24/AD0.1/I2SRX_WS/CAP3.1, 9 P0.23/AD00/I2SRX_CLK/CAP3.0, 10 VDDA, 11 VSSA, 12 VREF, 13 VDD-DCDC3V3, 14 ~{RSTOUT}, 15 VSS, 16 RTCX1, 17 ~{RESET}, 18 RTCX2, 19 VBAT, 20 P1.31/SCK1/AD0.5, 21 P1.30/VBUS/AD0.4, 22 XTAL1, 23 XTAL2, 24 P0.28/SCL0, 25 P0.27/SDA0, 26 P3.26/MAT0.1/PWM1.3, 27 P3.25/MAT0.0/PWM1.2, 28 VDD3V3, 29 P0.29/USB_D+, 30 P0.30/USB_D-, 31 VSS, 32 P1.18/USB_UP_LED/PWM1.1/CAP1.0, 33 P1.19/CAP1.1, 34 P1.20/PWM1.2/SCK0, 35 P1.21/PWM1.3/SSEL0, 36 P1.22/MAT1.0, 37 P1.23/PWM1.4/MISO0, 38 P1.24/PWM1.5/MOSI0, 39 P1.25/MAT1.1, 40 P1.26/PWM1.6/CAP0.0, 41 VSS, 42 VDD(DCDC3V3), 43 P1.27/CAP0.1, 44 P1.28/PCAP1.0/MAT0.0, 45 P1.29/PCAP1.1/MAT0.1, 46 P0.0/RD1/TXD3/SDA1, 47 P0.1/TD1/RXD3/SCL1, 48 P0.10/TXD2/SDA2/MAT3.0, 49 P0.11/RXD2/SCL2/MAT31, 50 P2.13/~{EINT3}/MCIDAT3/I2STX_SDA, 51 P2.12/~{EINT2}/MCIDAT2/I2STX_WS, 52 P2.11/~{EINT1}/  MCIDAT1/I2STX_CLK, 53 P2.10/~{EINT0}, 54 VDD3V3, 55 VSS, 56 P0.22/RTS1/MCIDAT0/TD1, 57 P0.21/RI1/MCIPWR/RD1, 58 P0.20/DTR1/MCICMD/SCL1, 59 P0.19/DSR1/MCICLK/SDA1, 60 P0.18/DCD1/MOSI0/MOSI, 61 P0.17/CTS1/MISO0/MISO, 62 P0.15/TXD1/SCK0/SCK, 63 P0.16/RXD1/SSEL0/SSEL, 64 P2.9/USB_CONNECT/RXD2/EXTIN0, 65 P2.8/TD2/TXD2/TRACEPKT3, 66 P2.7/RD2/RTS1/TRACEPKT2, 67 P2.6/PCAP1.0/RI1/TRACEPKT1, 68 P2.5/PWM1.6/DTR1/TRACEPKT0, 69 P2.4/PWM1.5/DSR1/TRACESYNC, 70 P2.3/PWM1.4/DCD1/PIPESTAT2, 71 VDD3V3, 72 VSS, 73 P2.2/PWM1.3/CTS1/PIPESTAT1, 74 P2.1/PWM1.2/RXD1/PIPESTAT0, 75 P2.0/PWM1.1/TXD1/TRACECLK, 76 P0.9/I2STX_SDA/MOSI1/MAT2.3, 77 P0.8/I2STX_WS/MISO1/MAT2.2, 78 P0.7/I2STX_CLK/SCK1/MAT2.1, 79 P0.6/I2SRX_SDA/SSEL1/MAT2.0, 80 P0.5/I2SRX_WS/TD2/CAP2.1, 81 P0.4/I2SRX_CLK/RD2/CAP2.0, 82 P4.28/MAT2.0/TXD3, 83 VSS, 84 VDD(DCDC3V3), 85 P4.29/MAT2.1/RXD3, 86 P1.17/ENET_MDIO, 87 P1.16/ENET_MDC, 88 P1.15/ENET_REF_CLK, 89 P1.14/ENET_RX_ER, 90 P1.10/ENET_RXD1, 91 P1.9/ENET_RXD0, 92 P1.8/ENET_CRS, 93 P1.4/ENET_TX_EN, 94 P1.1/ENET_TXD1, 95 P1.0/ENET_TXD0, 96 VDD3V3, 97 VSS, 98 P0.2/TXD0, 99 P0.3/RXD0, 100 RTCK

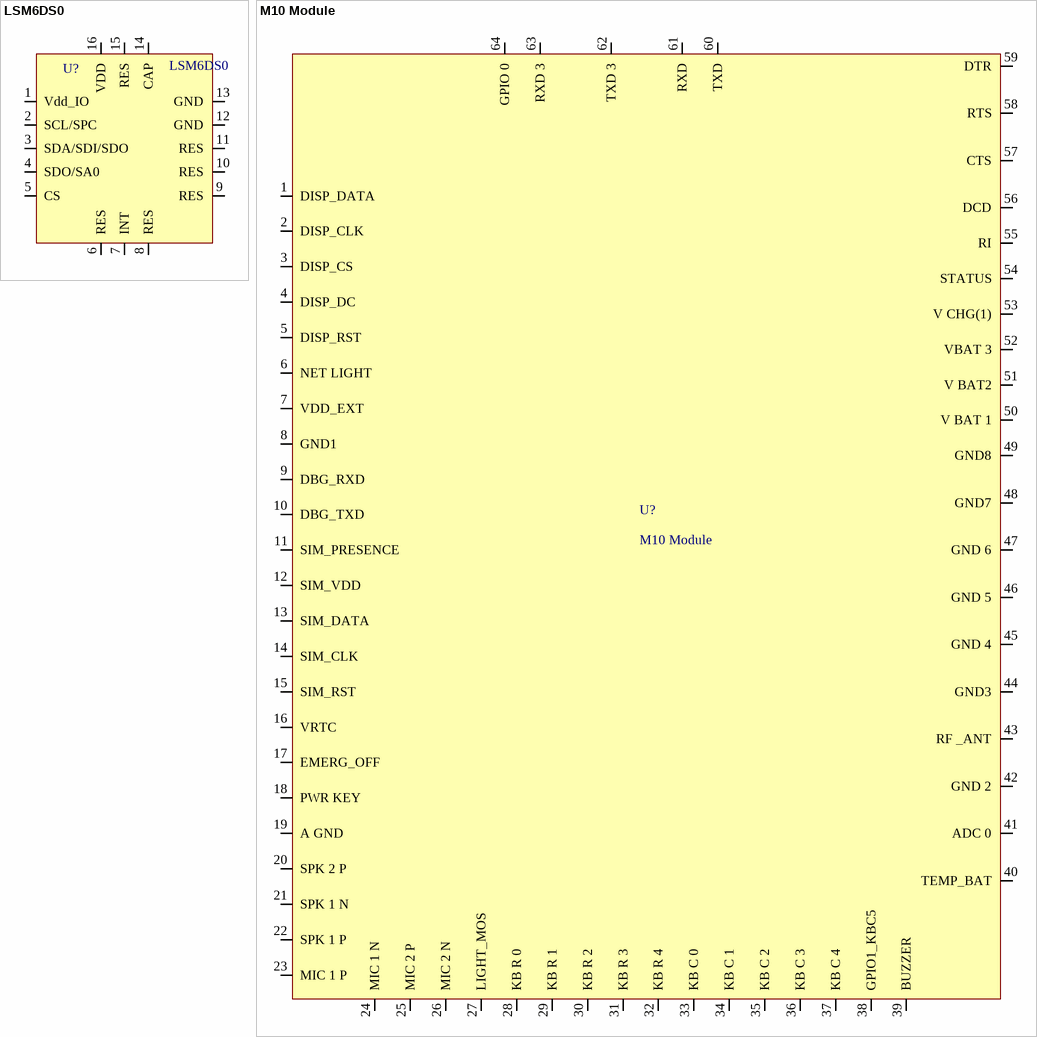
[diagram p22: symbols LSM6DS0 to M10 Module]

## LSM6DS0
designator U?
pins: 1 Vdd_IO, 2 SCL/SPC, 3 SDA/SDI/SDO, 4 SDO/SA0, 5 CS, 6 RES, 7 INT, 8 RES, 9 RES, 10 RES, 11 RES, 12 GND, 13 GND, 14 CAP, 15 RES, 16 VDD

## M10 Module
designator U?
footprint M10 Module (Footprint not found)
pins: 1 DISP_DATA, 2 DISP_CLK, 3 DISP_CS, 4 DISP_DC, 5 DISP_RST, 6 NET LIGHT, 7 VDD_EXT, 8 GND1, 9 DBG_RXD, 10 DBG_TXD, 11 SIM_PRESENCE, 12 SIM_VDD, 13 SIM_DATA, 14 SIM_CLK, 15 SIM_RST, 16 VRTC, 17 EMERG_OFF, 18 PWR KEY, 19 A GND, 20 SPK 2 P, 21 SPK 1 N, 22 SPK 1 P, 23 MIC 1 P, 24 MIC 1 N, 25 MIC 2 P, 26 MIC 2 N, 27 LIGHT_MOS, 28 KB R 0, 29 KB R 1, 30 KB R 2, 31 KB R 3, 32 KB R 4, 33 KB C 0, 34 KB C 1, 35 KB C 2, 36 KB C 3, 37 KB C 4, 38 GPIO1_KBC5, 39 BUZZER, 40 TEMP_BAT, 41 ADC 0, 42 GND 2, 43 RF _ANT, 44 GND3, 45 GND 4, 46 GND 5, 47 GND 6, 48 GND7, 49 GND8, 50 V BAT 1, 51 V BAT2, 52 VBAT 3, 53 V CHG(1), 54 STATUS, 55 RI, 56 DCD, 57 CTS, 58 RTS, 59 DTR, 60 TXD, 61 RXD, 62 TXD 3, 63 RXD 3, 64 GPIO 0

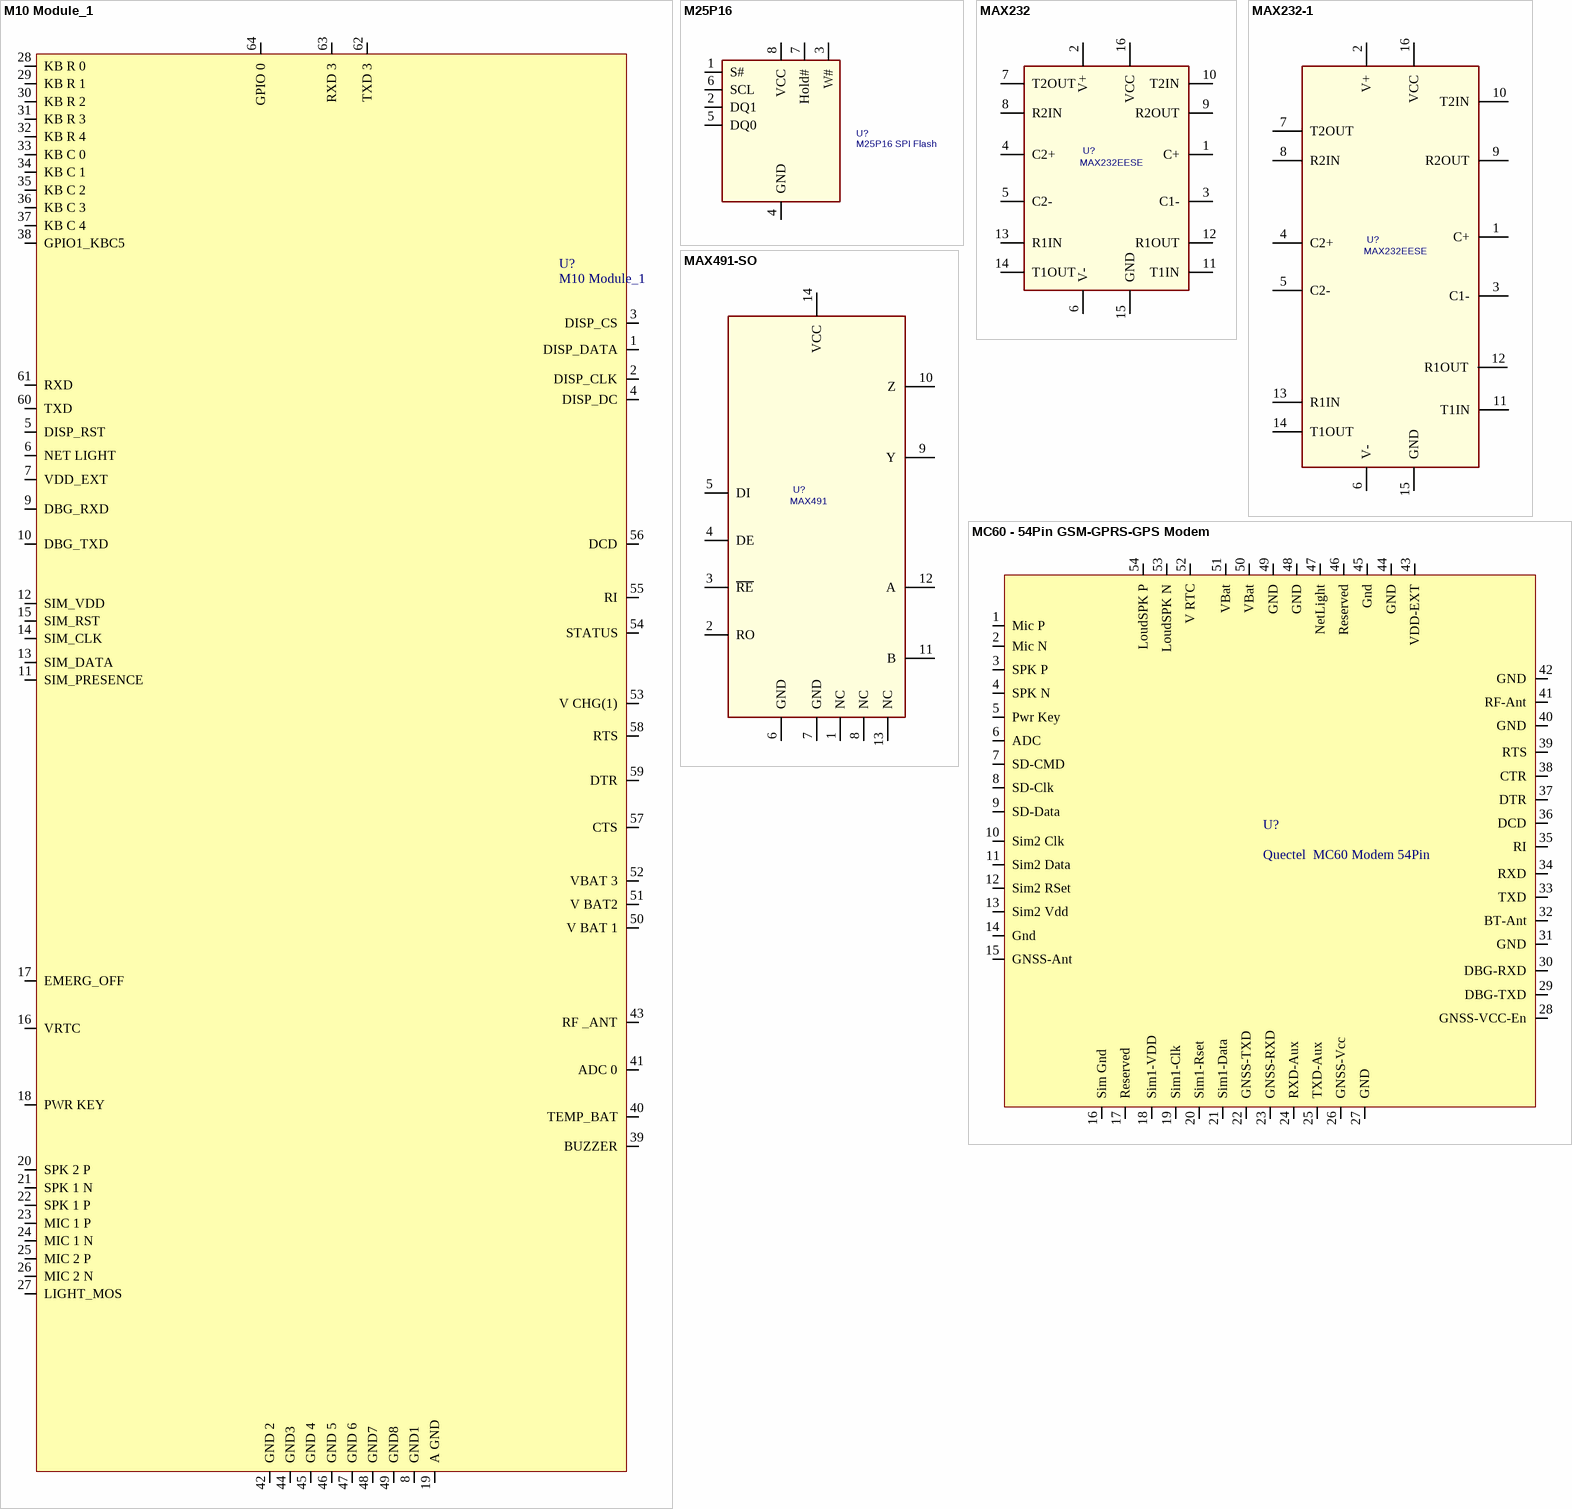
[diagram p23: symbols M10 Module_1 to MC60 - 54Pin GSM-GPRS-GPS Modem]

## M10 Module_1
designator U?
footprint Modem M10 (Modem M10 64 Pins)
pins: 1 DISP_DATA, 2 DISP_CLK, 3 DISP_CS, 4 DISP_DC, 5 DISP_RST, 6 NET LIGHT, 7 VDD_EXT, 8 GND1, 9 DBG_RXD, 10 DBG_TXD, 11 SIM_PRESENCE, 12 SIM_VDD, 13 SIM_DATA, 14 SIM_CLK, 15 SIM_RST, 16 VRTC, 17 EMERG_OFF, 18 PWR KEY, 19 A GND, 20 SPK 2 P, 21 SPK 1 N, 22 SPK 1 P, 23 MIC 1 P, 24 MIC 1 N, 25 MIC 2 P, 26 MIC 2 N, 27 LIGHT_MOS, 28 KB R 0, 29 KB R 1, 30 KB R 2, 31 KB R 3, 32 KB R 4, 33 KB C 0, 34 KB C 1, 35 KB C 2, 36 KB C 3, 37 KB C 4, 38 GPIO1_KBC5, 39 BUZZER, 40 TEMP_BAT, 41 ADC 0, 42 GND 2, 43 RF _ANT, 44 GND3, 45 GND 4, 46 GND 5, 47 GND 6, 48 GND7, 49 GND8, 50 V BAT 1, 51 V BAT2, 52 VBAT 3, 53 V CHG(1), 54 STATUS, 55 RI, 56 DCD, 57 CTS, 58 RTS, 59 DTR, 60 TXD, 61 RXD, 62 TXD 3, 63 RXD 3, 64 GPIO 0

## M25P16
designator U?, comment M25P16 SPI Flash
footprint SOP-8 (SOP-8 ,1232,24C256)
pins: 1 S#, 2 DQ1, 3 W#, 4 GND, 5 DQ0, 6 SCL, 7 Hold#, 8 VCC

## MAX232
designator U?, comment MAX232EESE
footprint SOP-16 (SOP-16=)
pins: 1 C+, 2 V+, 3 C1-, 4 C2+, 5 C2-, 6 V-, 7 T2OUT, 8 R2IN, 9 R2OUT, 10 T2IN, 11 T1IN, 12 R1OUT, 13 R1IN, 14 T1OUT, 15 GND, 16 VCC

## MAX232-1
designator U?, comment MAX232EESE
footprint SOP-16 (SOP-16=)
pins: 1 C+, 2 V+, 3 C1-, 4 C2+, 5 C2-, 6 V-, 7 T2OUT, 8 R2IN, 9 R2OUT, 10 T2IN, 11 T1IN, 12 R1OUT, 13 R1IN, 14 T1OUT, 15 GND, 16 VCC

## MAX491-SO
designator U?, comment MAX491
footprint SOP-14
pins: 1 NC, 2 RO, 3 ~{RE}, 4 DE, 5 DI, 6 GND, 7 GND, 8 NC, 9 Y, 10 Z, 11 B, 12 A, 13 NC, 14 VCC

## MC60 - 54Pin GSM-GPRS-GPS Modem
designator U?, comment Quectel  MC60 Modem 54Pin
Quectel Combo Modem MC60 GPS/GSM/GPRS
footprint MC60-Modem
pins: 1 Mic P, 2 Mic N, 3 SPK P, 4 SPK N, 5 Pwr Key, 6 ADC, 7 SD-CMD, 8 SD-Clk, 9 SD-Data, 10 Sim2 Clk, 11 Sim2 Data, 12 Sim2 RSet, 13 Sim2 Vdd, 14 Gnd, 15 GNSS-Ant, 16 Sim Gnd, 17 Reserved, 18 Sim1-VDD, 19 Sim1-Clk, 20 Sim1-Rset, 21 Sim1-Data, 22 GNSS-TXD, 23 GNSS-RXD, 24 RXD-Aux, 25 TXD-Aux, 26 GNSS-Vcc, 27 GND, 28 GNSS-VCC-En, 29 DBG-TXD, 30 DBG-RXD, 31 GND, 32 BT-Ant, 33 TXD, 34 RXD, 35 RI, 36 DCD, 37 DTR, 38 CTR, 39 RTS, 40 GND, 41 RF-Ant, 42 GND, 43 VDD-EXT, 44 GND, 45 Gnd, 46 Reserved, 47 NetLight, 48 GND, 49 GND, 50 VBat, 51 VBat, 52 V RTC, 53 LoudSPK N, 54 LoudSPK P

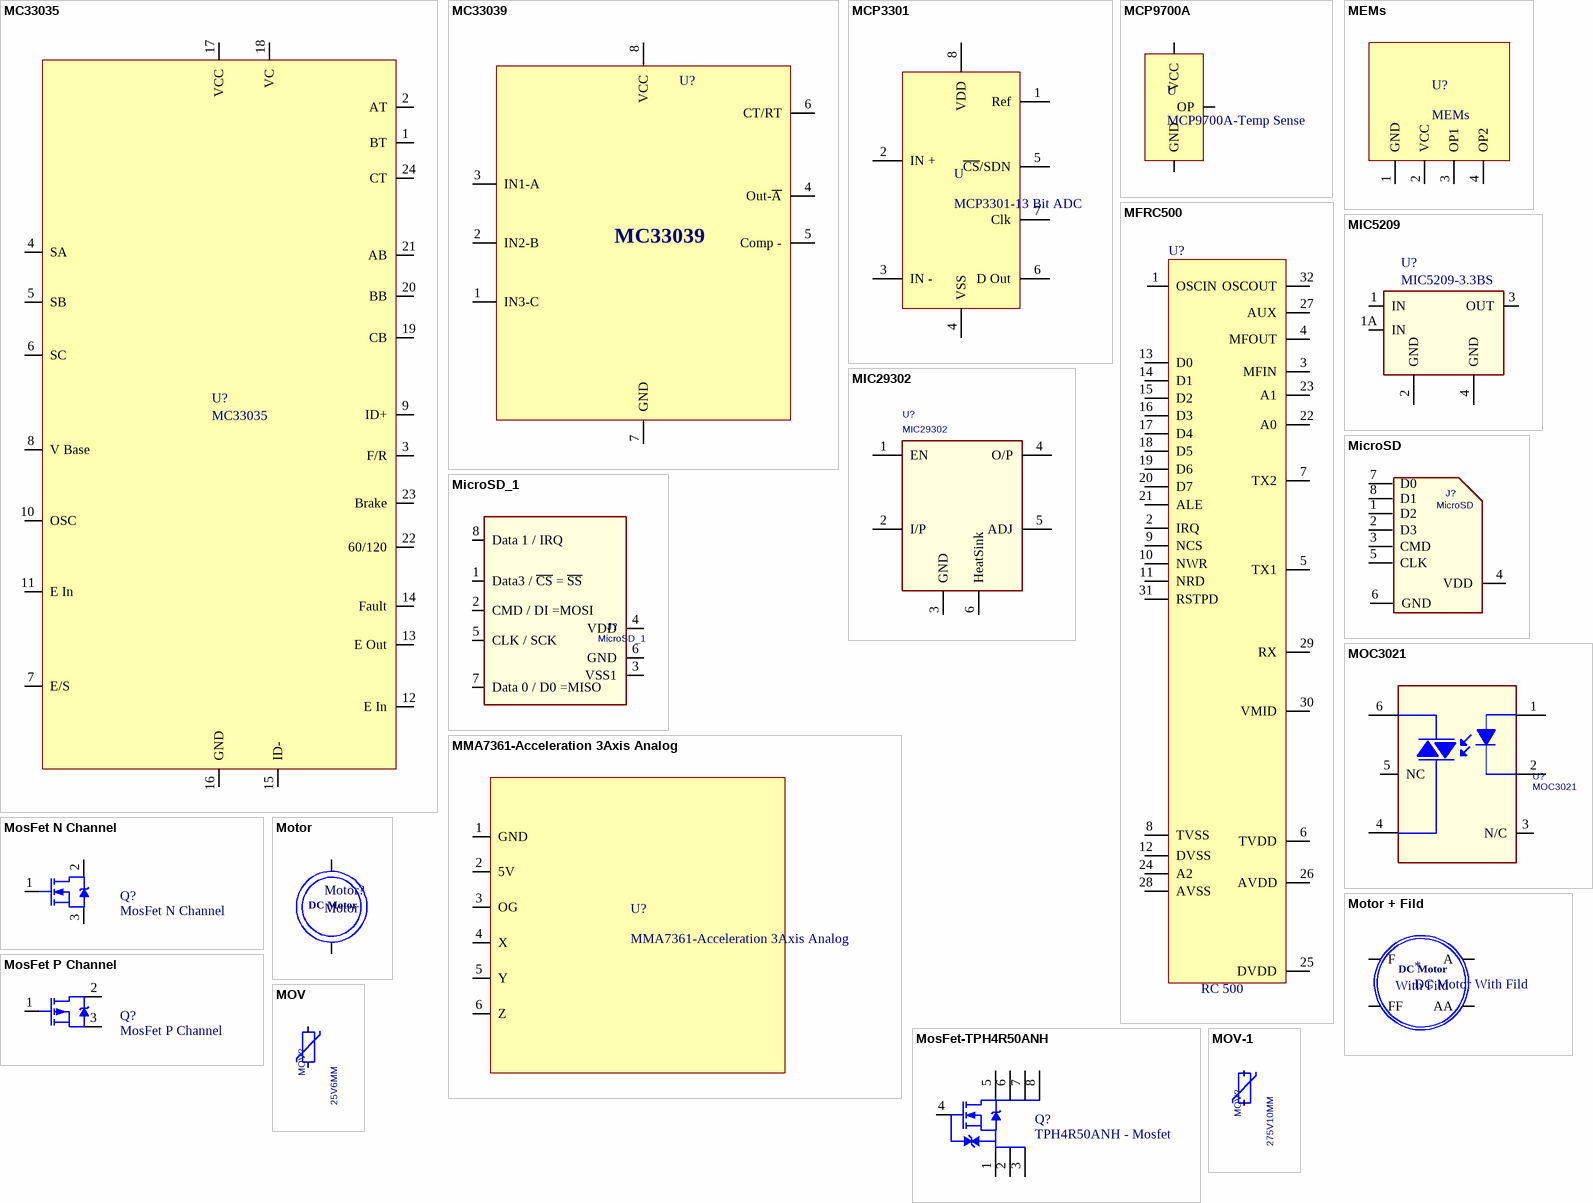
[diagram p24: symbols MC33035 to MOV-1]

## MC33035
designator U?
MC33035-BLDC Driver
footprint Dip-24 (IC Base 24Pin)
pins: 1 BT, 2 AT, 3 F/R, 4 SA, 5 SB, 6 SC, 7 E/S, 8 V Base, 9 ID+, 10 OSC, 11 E In, 12 E In, 13 E Out, 14 Fault, 15 ID-, 16 GND, 17 VCC, 18 VC, 19 CB, 20 BB, 21 AB, 22 60/120, 23 Brake, 24 CT

## MC33039
designator U?
footprint Dip-8
pins: 1 IN3-C, 2 IN2-B, 3 IN1-A, 4 Out-~{A}, 5 Comp -, 6 CT/RT, 7 GND, 8 VCC

## MCP3301
designator U, comment MCP3301-13 Bit ADC
pins: 1 Ref, 2 IN +, 3 IN -, 4 VSS, 5 ~{CS}/SDN, 6 D Out, 7 Clk, 8 VDD

## MCP9700A
designator U, comment MCP9700A-Temp Sense
footprint SOT23-MCP9700A (SOT23-MCP9700A-TempSense)
pins: 1 VCC, 2 OP, 3 GND

## MEMs
designator U?
pins: 1 GND, 2 VCC, 3 OP1, 4 OP2

## MFRC500
designator U?, comment RC 500
gg
footprint SOIC-32 (Footprint not found)
footprint TSSOP32-300Mill (TSSOP32Pin-300Mill)
pins: 1 OSCIN, 2 IRQ, 3 MFIN, 4 MFOUT, 5 TX1, 6 TVDD, 7 TX2, 8 TVSS, 9 NCS, 10 NWR, 11 NRD, 12 DVSS, 13 D0, 14 D1, 15 D2, 16 D3, 17 D4, 18 D5, 19 D6, 20 D7, 21 ALE, 22 A0, 23 A1, 24 A2, 25 DVDD, 26 AVDD, 27 AUX, 28 AVSS, 29 RX, 30 VMID, 31 RSTPD, 32 OSCOUT

## MIC5209
designator U?, comment MIC5209-3.3BS
footprint SOT223-DUAL
footprint SOT223-DUAL (8117 /)
pins: 1 IN, 1A IN, 2 GND, 3 OUT, 4 GND

## MIC29302
designator U?
footprint MIC29302 (MIC29302-)
pins: 1 EN, 2 I/P, 3 GND, 4 O/P, 5 ADJ, 6 HeatSink

## MicroSD
designator J?
footprint MICRO-SD
pins: 1 D2, 2 D3, 3 CMD, 4 VDD, 5 CLK, 6 GND, 7 D0, 8 D1

## MicroSD_1
designator J?
footprint MICRO-SD
pins: 1 Data3 / ~{CS} = ~{SS}, 2 CMD / DI =MOSI, 3 VSS1, 4 VDD, 5 CLK / SCK, 6 GND, 7 Data 0 / D0 =MISO, 8 Data 1 / IRQ

## MMA7361-Acceleration 3Axis Analog
designator U?
MMA7361-Acceleration 3Axis Analog SR1156
pins: 1 GND, 2 5V, 3 OG, 4 X, 5 Y, 6 Z

## MOC3021
designator U?
pins: 1 A, 2 C, 3 N/C, 4 EMIT, 5 NC, 6 Base

## MosFet N Channel
designator Q?
Repetitive Avalanche and dv/dt Rated HEXFET Transistor
pins: 1 G, 2 D, 3 S

## MosFet P Channel
designator Q?
Repetitive Avalanche and dv/dt Rated HEXFET Transistor
pins: 1 G, 2 D, 3 S

## MosFet-TPH4R50ANH
designator Q?, comment TPH4R50ANH - Mosfet
2SK3878-High Voltage N Channel MOSFET
footprint SOP-8-TPH4R50ANH
pins: 1 S, 2 S, 3 S, 4 G, 5 D, 6 D, 7 D, 8 D

## Motor
designator Motor?
pins: 1, 2
text: DC Motor

## Motor + Fild
designator *, comment DC Motor With Fild
pins: 1 F, 2 FF, 3 A, 4 AA
text: DC Motor; With Fild

## MOV
designator MOV?, comment 25V6MM
footprint MOV6mm
pins: 1, 2

## MOV-1
designator MOV?, comment 275V10MM
footprint MOV6mm
pins: 1, 2

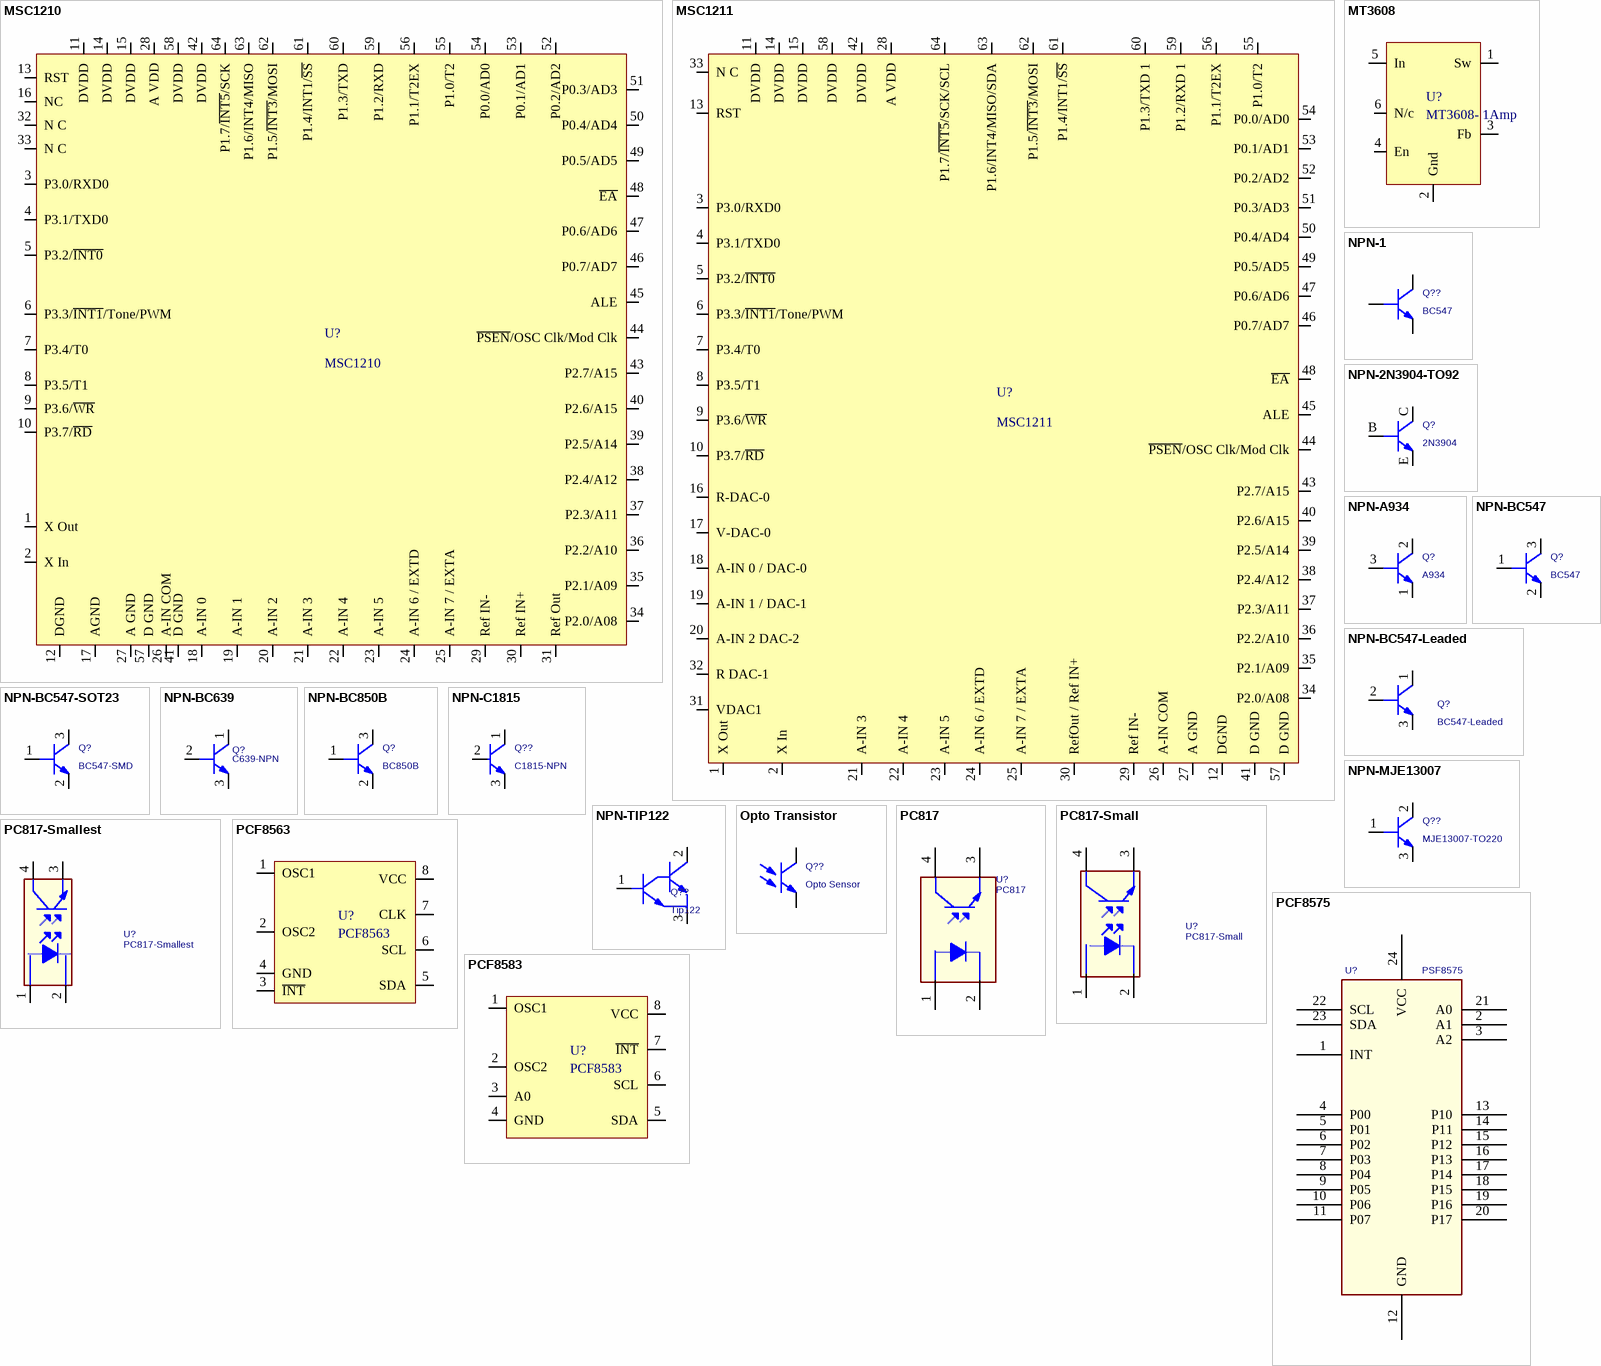
[diagram p25: symbols MSC1210 to PCF8583]

## MSC1210
designator U?
footprint TQFP64-Zig (LQFP64-Zig)
pins: 1 X Out, 2 X In, 3 P3.0/RXD0, 4 P3.1/TXD0, 5 P3.2/~{INT0}, 6 P3.3/~{INT1}/Tone/PWM, 7 P3.4/T0, 8 P3.5/T1, 9 P3.6/~{WR}, 10 P3.7/~{RD}, 11 DVDD, 12 DGND, 13 RST, 14 DVDD, 15 DVDD, 16 NC, 17 AGND, 18 A-IN 0, 19 A-IN 1, 20 A-IN 2, 21 A-IN 3, 22 A-IN 4, 23 A-IN 5, 24 A-IN 6 / EXTD, 25 A-IN 7 / EXTA, 26 A-IN COM, 27 A GND, 28 A VDD, 29 Ref IN-, 30 Ref IN+, 31 Ref Out, 32 N C , 33 N C , 34 P2.0/A08, 35 P2.1/A09, 36 P2.2/A10, 37 P2.3/A11, 38 P2.4/A12, 39 P2.5/A14, 40 P2.6/A15, 41 D GND, 42 DVDD, 43 P2.7/A15, 44 ~{PSEN}/OSC Clk/Mod Clk, 45 ALE, 46 P0.7/AD7, 47 P0.6/AD6, 48 ~{EA}, 49 P0.5/AD5, 50 P0.4/AD4, 51 P0.3/AD3, 52 P0.2/AD2, 53 P0.1/AD1, 54 P0.0/AD0, 55 P1.0/T2, 56 P1.1/T2EX, 57 D GND, 58 DVDD, 59 P1.2/RXD, 60 P1.3/TXD, 61 P1.4/INT1/~{SS}, 62 P1.5/~{INT3}/MOSI, 63 P1.6/INT4/MISO, 64 P1.7/~{INT5}/SCK

## MSC1211
designator U?
footprint TQFP64-C (LQFP64)
pins: 1 X Out, 2 X In, 3 P3.0/RXD0, 4 P3.1/TXD0, 5 P3.2/~{INT0}, 6 P3.3/~{INT1}/Tone/PWM, 7 P3.4/T0, 8 P3.5/T1, 9 P3.6/~{WR}, 10 P3.7/~{RD}, 11 DVDD, 12 DGND, 13 RST, 14 DVDD, 15 DVDD, 16 R-DAC-0, 17 V-DAC-0, 18 A-IN 0 / DAC-0, 19 A-IN 1 / DAC-1, 20 A-IN 2 DAC-2, 21 A-IN 3, 22 A-IN 4, 23 A-IN 5, 24 A-IN 6 / EXTD, 25 A-IN 7 / EXTA, 26 A-IN COM, 27 A GND, 28 A VDD, 29 Ref IN-, 30 RefOut / Ref IN+, 31 VDAC1, 32 R DAC-1, 33 N C , 34 P2.0/A08, 35 P2.1/A09, 36 P2.2/A10, 37 P2.3/A11, 38 P2.4/A12, 39 P2.5/A14, 40 P2.6/A15, 41 D GND, 42 DVDD, 43 P2.7/A15, 44 ~{PSEN}/OSC Clk/Mod Clk, 45 ALE, 46 P0.7/AD7, 47 P0.6/AD6, 48 ~{EA}, 49 P0.5/AD5, 50 P0.4/AD4, 51 P0.3/AD3, 52 P0.2/AD2, 53 P0.1/AD1, 54 P0.0/AD0, 55 P1.0/T2, 56 P1.1/T2EX, 57 D GND, 58 DVDD, 59 P1.2/RXD 1, 60 P1.3/TXD 1, 61 P1.4/INT1/~{SS}, 62 P1.5/~{INT3}/MOSI, 63 P1.6/INT4/MISO/SDA, 64 P1.7/~{INT5}/SCK/SCL

## MT3608
designator U?, comment MT3608- 1Amp
DC to DC   Boost Convetr MT3608- 1Amp
pins: 1 Sw, 2 Gnd, 3 Fb, 4 En, 5 In, 6 N/c

## NPN-1
designator Q??, comment BC547
pins: 1 BASE, 2 EMITTER, 3 COLLECTOR

## NPN-2N3904-TO92
designator Q?, comment 2N3904
footprint TO92-2N3904
pins: B BASE, C COLLECTOR, E EMITTER

## NPN-A934
designator Q?, comment A934
pins: 1 EMITTER, 2 COLLECTOR, 3 BASE

## NPN-BC547
designator Q?, comment BC547
pins: 1 BASE, 2 EMITTER, 3 COLLECTOR

## NPN-BC547-Leaded
designator Q?, comment BC547-Leaded
footprint TO92-BC547-Leaded
pins: 1 COLLECTOR, 2 BASE, 3 EMITTER

## NPN-BC547-SOT23
designator Q?, comment BC547-SMD
footprint SOT23 (SOT23,Transistor,Doide)
pins: 1 BASE, 2 EMITTER, 3 COLLECTOR

## NPN-BC639
designator Q?, comment C639-NPN
pins: 1 COLLECTOR, 2 BASE, 3 EMITTER

## NPN-BC850B
designator Q?, comment BC850B
pins: 1 BASE, 2 EMITTER, 3 COLLECTOR

## NPN-C1815
designator Q??, comment C1815-NPN
footprint C1815-NPN-Leaded (Footprint not found)
pins: 1 COLLECTOR, 2 BASE, 3 EMITTER

## NPN-MJE13007
designator Q??, comment MJE13007-TO220
pins: 1 BASE, 2 COLLECTOR, 3 EMITTER

## NPN-TIP122
designator Q??, comment Tip122
footprint TO220-TIP122 (Footprint not found)
pins: 1 BASE, 2 EMITTER, 3 COLLECTOR

## Opto Transistor
designator Q??, comment Opto Sensor
PhotoTransistor
footprint LED3MM
pins: 1 EMITTER, 2 COLLECTOR

## PC817
designator U?
footprint Dip-4
pins: 1 A, 2 C, 3 EMIT, 4 COL

## PC817-Small
designator U?
footprint Dip-4
pins: 1 A, 2 C, 3 EMIT, 4 COL

## PC817-Smallest
designator U?
footprint Dip-4a
pins: 1 A, 2 C, 3 EMIT, 4 COL

## PCF8563
designator U?
pins: 1 OSC1, 2 OSC2, 3 ~{INT}, 4 GND, 5 SDA, 6 SCL, 7 CLK, 8 VCC

## PCF8575
designator U?, comment PSF8575
I2C Paralall
footprint PSF8575
pins: 1 INT, 2 A1, 3 A2, 4 P00, 5 P01, 6 P02, 7 P03, 8 P04, 9 P05, 10 P06, 11 P07, 12 GND, 13 P10, 14 P11, 15 P12, 16 P13, 17 P14, 18 P15, 19 P16, 20 P17, 21 A0, 22 SCL, 23 SDA, 24 VCC

## PCF8583
designator U?
footprint Dip-8
pins: 1 OSC1, 2 OSC2, 3 A0, 4 GND, 5 SDA, 6 SCL, 7 ~{INT}, 8 VCC

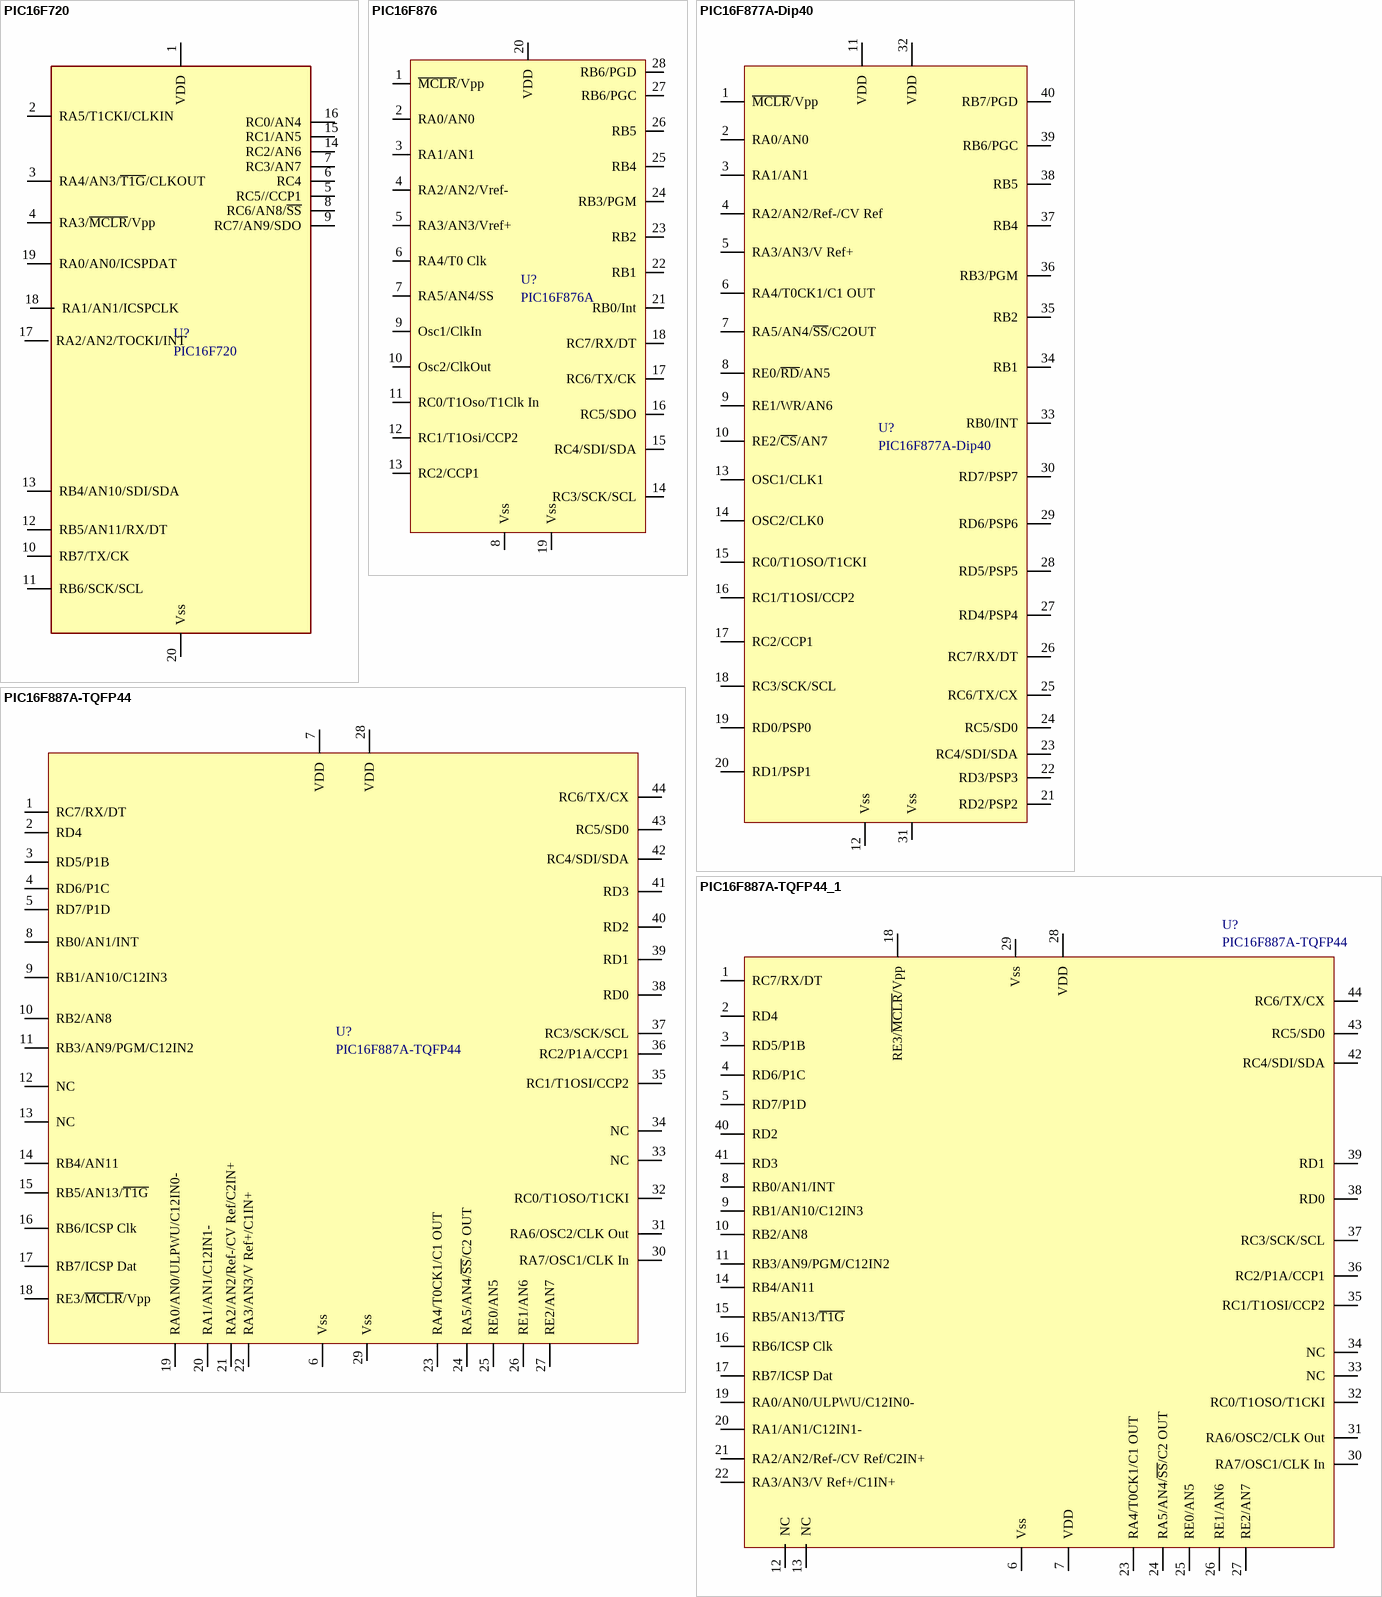
[diagram p26: symbols PIC16F720 to PIC16F887A-TQFP44_1]

## PIC16F720
designator U?
pins: 1 VDD, 2 RA5/T1CKI/CLKIN, 3 RA4/AN3/~{T1G}/CLKOUT, 4 RA3/~{MCLR}/Vpp, 5 RC5//CCP1, 6 RC4, 7 RC3/AN7, 8 RC6/AN8/~{SS}, 9 RC7/AN9/SDO, 10 RB7/TX/CK, 11 RB6/SCK/SCL, 12 RB5/AN11/RX/DT, 13 RB4/AN10/SDI/SDA, 14 RC2/AN6, 15 RC1/AN5, 16 RC0/AN4, 17 RA2/AN2/TOCKI/INT, 18 RA1/AN1/ICSPCLK, 19 RA0/AN0/ICSPDAT, 20 Vss

## PIC16F876
designator U?, comment PIC16F876A
footprint Dip-28 (IC Base 28Pin)
pins: 1 ~{MCLR}/Vpp, 2 RA0/AN0, 3 RA1/AN1, 4 RA2/AN2/Vref-, 5 RA3/AN3/Vref+, 6 RA4/T0 Clk, 7 RA5/AN4/SS, 8 Vss, 9 Osc1/ClkIn, 10 Osc2/ClkOut, 11 RC0/T1Oso/T1Clk In, 12 RC1/T1Osi/CCP2, 13 RC2/CCP1, 14 RC3/SCK/SCL, 15 RC4/SDI/SDA, 16 RC5/SDO, 17 RC6/TX/CK, 18 RC7/RX/DT, 19 Vss, 20 VDD, 21 RB0/Int, 22 RB1, 23 RB2, 24 RB3/PGM, 25 RB4, 26 RB5, 27 RB6/PGC, 28 RB6/PGD

## PIC16F877A-Dip40
designator U?
footprint DIP-40
pins: 1 ~{MCLR}/Vpp, 2 RA0/AN0, 3 RA1/AN1, 4 RA2/AN2/Ref-/CV Ref, 5 RA3/AN3/V Ref+, 6 RA4/T0CK1/C1 OUT, 7 RA5/AN4/~{SS}/C2OUT, 8 RE0/~{RD}/AN5, 9 RE1/WR/AN6, 10 RE2/~{CS}/AN7, 11 VDD, 12 Vss, 13 OSC1/CLK1, 14 OSC2/CLK0, 15 RC0/T1OSO/T1CKI, 16 RC1/T1OSI/CCP2, 17 RC2/CCP1, 18 RC3/SCK/SCL, 19 RD0/PSP0, 20 RD1/PSP1, 21 RD2/PSP2, 22 RD3/PSP3, 23 RC4/SDI/SDA, 24 RC5/SD0, 25 RC6/TX/CX, 26 RC7/RX/DT, 27 RD4/PSP4, 28 RD5/PSP5, 29 RD6/PSP6, 30 RD7/PSP7, 31 Vss, 32 VDD, 33 RB0/INT, 34 RB1, 35 RB2, 36 RB3/PGM, 37 RB4, 38 RB5, 39 RB6/PGC, 40 RB7/PGD

## PIC16F887A-TQFP44
designator U?
pins: 1 RC7/RX/DT, 2 RD4, 3 RD5/P1B, 4 RD6/P1C, 5 RD7/P1D, 6 Vss, 7 VDD, 8 RB0/AN1/INT, 9 RB1/AN10/C12IN3, 10 RB2/AN8, 11 RB3/AN9/PGM/C12IN2, 12 NC, 13 NC, 14 RB4/AN11, 15 RB5/AN13/~{T1G}, 16 RB6/ICSP Clk, 17 RB7/ICSP Dat, 18 RE3/~{MCLR}/Vpp, 19 RA0/AN0/ULPWU/C12IN0-, 20 RA1/AN1/C12IN1-, 21 RA2/AN2/Ref-/CV Ref/C2IN+, 22 RA3/AN3/V Ref+/C1IN+, 23 RA4/T0CK1/C1 OUT, 24 RA5/AN4/~{SS}/C2 OUT, 25 RE0/AN5, 26 RE1/AN6, 27 RE2/AN7, 28 VDD, 29 Vss, 30 RA7/OSC1/CLK In, 31 RA6/OSC2/CLK Out, 32 RC0/T1OSO/T1CKI, 33 NC, 34 NC, 35 RC1/T1OSI/CCP2, 36 RC2/P1A/CCP1, 37 RC3/SCK/SCL, 38 RD0, 39 RD1, 40 RD2, 41 RD3, 42 RC4/SDI/SDA, 43 RC5/SD0, 44 RC6/TX/CX

## PIC16F887A-TQFP44_1
designator U?, comment PIC16F887A-TQFP44
footprint TQFP44 (Picth.8MM)
pins: 1 RC7/RX/DT, 2 RD4, 3 RD5/P1B, 4 RD6/P1C, 5 RD7/P1D, 6 Vss, 7 VDD, 8 RB0/AN1/INT, 9 RB1/AN10/C12IN3, 10 RB2/AN8, 11 RB3/AN9/PGM/C12IN2, 12 NC, 13 NC, 14 RB4/AN11, 15 RB5/AN13/~{T1G}, 16 RB6/ICSP Clk, 17 RB7/ICSP Dat, 18 RE3/~{MCLR}/Vpp, 19 RA0/AN0/ULPWU/C12IN0-, 20 RA1/AN1/C12IN1-, 21 RA2/AN2/Ref-/CV Ref/C2IN+, 22 RA3/AN3/V Ref+/C1IN+, 23 RA4/T0CK1/C1 OUT, 24 RA5/AN4/~{SS}/C2 OUT, 25 RE0/AN5, 26 RE1/AN6, 27 RE2/AN7, 28 VDD, 29 Vss, 30 RA7/OSC1/CLK In, 31 RA6/OSC2/CLK Out, 32 RC0/T1OSO/T1CKI, 33 NC, 34 NC, 35 RC1/T1OSI/CCP2, 36 RC2/P1A/CCP1, 37 RC3/SCK/SCL, 38 RD0, 39 RD1, 40 RD2, 41 RD3, 42 RC4/SDI/SDA, 43 RC5/SD0, 44 RC6/TX/CX

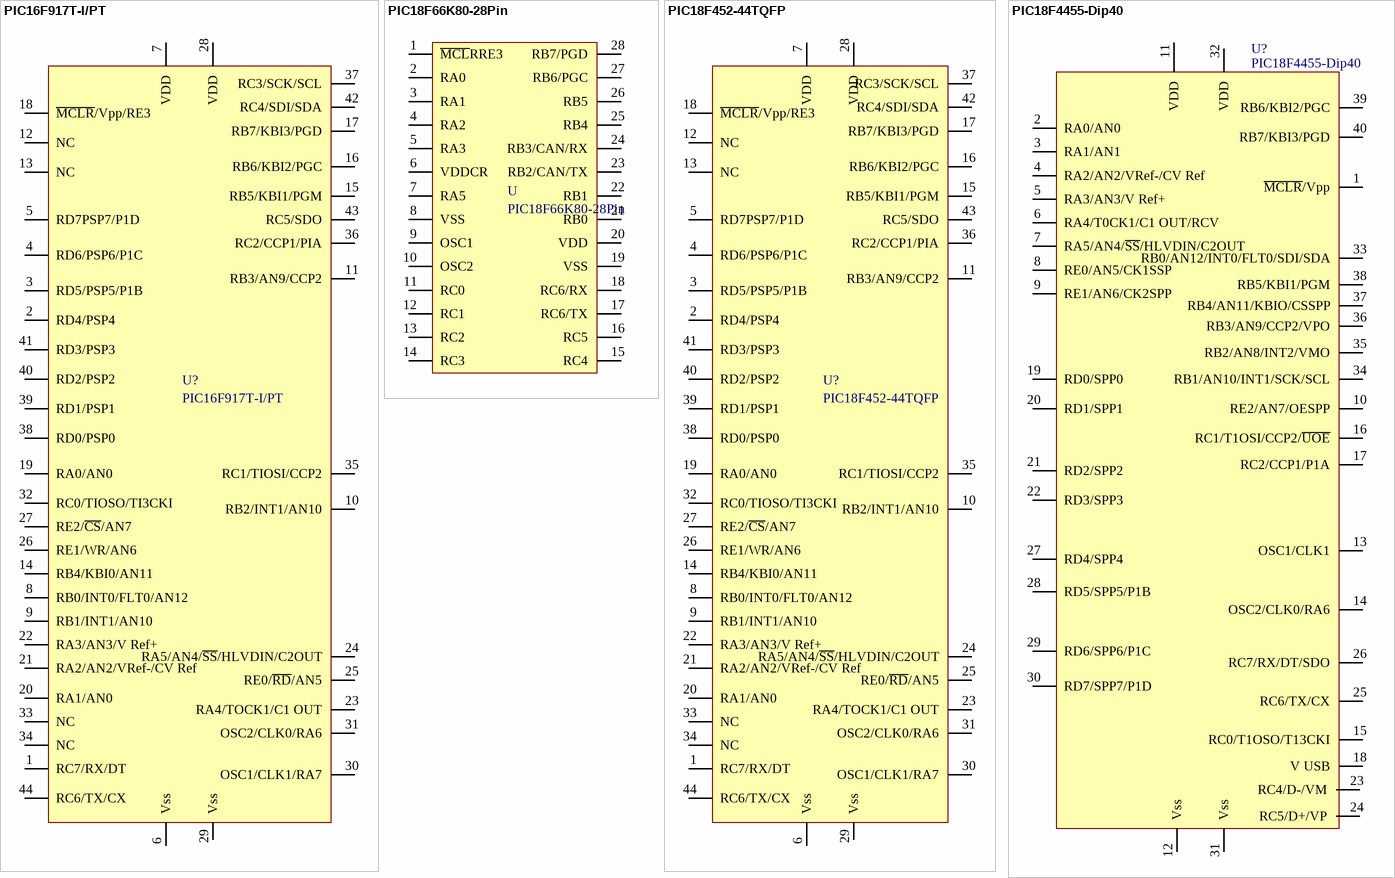
[diagram p27: symbols PIC16F917T-I/PT to PIC18F4455-Dip40]

## PIC16F917T-I/PT
designator U?
footprint TQFP44 (Footprint not found)
pins: 1 RC7/RX/DT, 2 RD4/PSP4, 3 RD5/PSP5/P1B, 4 RD6/PSP6/P1C, 5 RD7PSP7/P1D, 6 Vss, 7 VDD, 8 RB0/INT0/FLT0/AN12, 9 RB1/INT1/AN10, 10 RB2/INT1/AN10, 11 RB3/AN9/CCP2, 12 NC, 13 NC, 14 RB4/KBI0/AN11, 15 RB5/KBI1/PGM, 16 RB6/KBI2/PGC, 17 RB7/KBI3/PGD, 18 ~{MCLR}/Vpp/RE3, 19 RA0/AN0, 20 RA1/AN0, 21 RA2/AN2/VRef-/CV Ref, 22 RA3/AN3/V Ref+, 23 RA4/TOCK1/C1 OUT, 24 RA5/AN4/~{SS}/HLVDIN/C2OUT, 25 RE0/~{RD}/AN5, 26 RE1/WR/AN6, 27 RE2/~{CS}/AN7, 28 VDD, 29 Vss, 30 OSC1/CLK1/RA7, 31 OSC2/CLK0/RA6, 32 RC0/TIOSO/TI3CKI, 33 NC, 34 NC, 35 RC1/TIOSI/CCP2, 36 RC2/CCP1/PIA, 37 RC3/SCK/SCL, 38 RD0/PSP0, 39 RD1/PSP1, 40 RD2/PSP2, 41 RD3/PSP3, 42 RC4/SDI/SDA, 43 RC5/SDO, 44 RC6/TX/CX

## PIC18F66K80-28Pin
designator U
pins: 1 ~{MCL}RRE3, 2 RA0, 3 RA1, 4 RA2, 5 RA3, 6 VDDCR, 7 RA5, 8 VSS, 9 OSC1, 10 OSC2, 11 RC0, 12 RC1, 13 RC2, 14 RC3, 15 RC4, 16 RC5, 17 RC6/TX, 18 RC6/RX, 19 VSS, 20 VDD, 21 RB0, 22 RB1, 23 RB2/CAN/TX, 24 RB3/CAN/RX, 25 RB4, 26 RB5, 27 RB6/PGC, 28 RB7/PGD

## PIC18F452-44TQFP
designator U?
footprint TQFP44 (Footprint not found)
pins: 1 RC7/RX/DT, 2 RD4/PSP4, 3 RD5/PSP5/P1B, 4 RD6/PSP6/P1C, 5 RD7PSP7/P1D, 6 Vss, 7 VDD, 8 RB0/INT0/FLT0/AN12, 9 RB1/INT1/AN10, 10 RB2/INT1/AN10, 11 RB3/AN9/CCP2, 12 NC, 13 NC, 14 RB4/KBI0/AN11, 15 RB5/KBI1/PGM, 16 RB6/KBI2/PGC, 17 RB7/KBI3/PGD, 18 ~{MCLR}/Vpp/RE3, 19 RA0/AN0, 20 RA1/AN0, 21 RA2/AN2/VRef-/CV Ref, 22 RA3/AN3/V Ref+, 23 RA4/TOCK1/C1 OUT, 24 RA5/AN4/~{SS}/HLVDIN/C2OUT, 25 RE0/~{RD}/AN5, 26 RE1/WR/AN6, 27 RE2/~{CS}/AN7, 28 VDD, 29 Vss, 30 OSC1/CLK1/RA7, 31 OSC2/CLK0/RA6, 32 RC0/TIOSO/TI3CKI, 33 NC, 34 NC, 35 RC1/TIOSI/CCP2, 36 RC2/CCP1/PIA, 37 RC3/SCK/SCL, 38 RD0/PSP0, 39 RD1/PSP1, 40 RD2/PSP2, 41 RD3/PSP3, 42 RC4/SDI/SDA, 43 RC5/SDO, 44 RC6/TX/CX

## PIC18F4455-Dip40
designator U?
footprint DIP-40
pins: 1 ~{MCLR}/Vpp, 2 RA0/AN0, 3 RA1/AN1, 4 RA2/AN2/VRef-/CV Ref, 5 RA3/AN3/V Ref+, 6 RA4/T0CK1/C1 OUT/RCV, 7 RA5/AN4/~{SS}/HLVDIN/C2OUT, 8 RE0/AN5/CK1SSP, 9 RE1/AN6/CK2SPP, 10 RE2/AN7/OESPP, 11 VDD, 12 Vss, 13 OSC1/CLK1, 14 OSC2/CLK0/RA6, 15 RC0/T1OSO/T13CKI, 16 RC1/T1OSI/CCP2/~{UOE}, 17 RC2/CCP1/P1A, 18 V USB, 19 RD0/SPP0, 20 RD1/SPP1, 21 RD2/SPP2, 22 RD3/SPP3, 23 RC4/D-/VM, 24 RC5/D+/VP, 25 RC6/TX/CX, 26 RC7/RX/DT/SDO, 27 RD4/SPP4, 28 RD5/SPP5/P1B, 29 RD6/SPP6/P1C, 30 RD7/SPP7/P1D, 31 Vss, 32 VDD, 33 RB0/AN12/INT0/FLT0/SDI/SDA, 34 RB1/AN10/INT1/SCK/SCL, 35 RB2/AN8/INT2/VMO, 36 RB3/AN9/CCP2/VPO, 37 RB4/AN11/KBIO/CSSPP, 38 RB5/KBI1/PGM, 39 RB6/KBI2/PGC, 40 RB7/KBI3/PGD

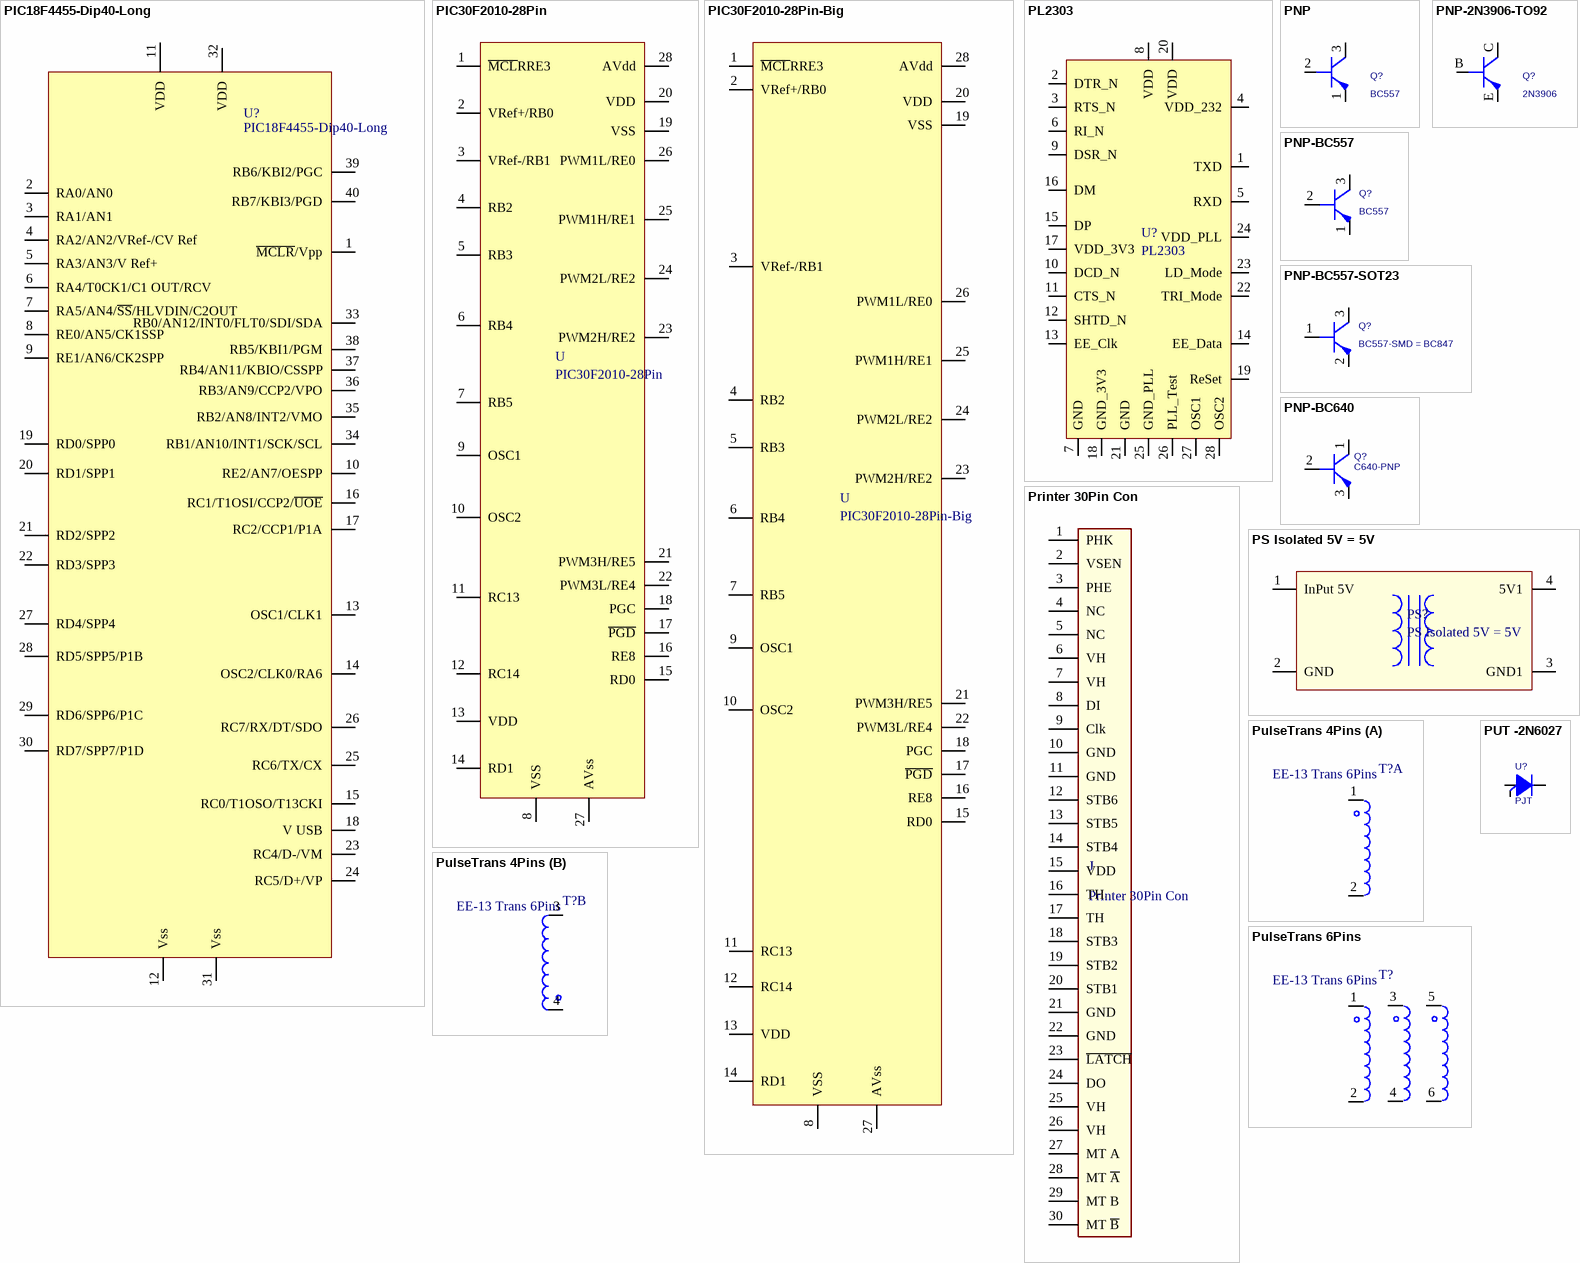
[diagram p28: symbols PIC18F4455-Dip40-Long to PUT -2N6027]

## PIC18F4455-Dip40-Long
designator U?
footprint DIP-40
pins: 1 ~{MCLR}/Vpp, 2 RA0/AN0, 3 RA1/AN1, 4 RA2/AN2/VRef-/CV Ref, 5 RA3/AN3/V Ref+, 6 RA4/T0CK1/C1 OUT/RCV, 7 RA5/AN4/~{SS}/HLVDIN/C2OUT, 8 RE0/AN5/CK1SSP, 9 RE1/AN6/CK2SPP, 10 RE2/AN7/OESPP, 11 VDD, 12 Vss, 13 OSC1/CLK1, 14 OSC2/CLK0/RA6, 15 RC0/T1OSO/T13CKI, 16 RC1/T1OSI/CCP2/~{UOE}, 17 RC2/CCP1/P1A, 18 V USB, 19 RD0/SPP0, 20 RD1/SPP1, 21 RD2/SPP2, 22 RD3/SPP3, 23 RC4/D-/VM, 24 RC5/D+/VP, 25 RC6/TX/CX, 26 RC7/RX/DT/SDO, 27 RD4/SPP4, 28 RD5/SPP5/P1B, 29 RD6/SPP6/P1C, 30 RD7/SPP7/P1D, 31 Vss, 32 VDD, 33 RB0/AN12/INT0/FLT0/SDI/SDA, 34 RB1/AN10/INT1/SCK/SCL, 35 RB2/AN8/INT2/VMO, 36 RB3/AN9/CCP2/VPO, 37 RB4/AN11/KBIO/CSSPP, 38 RB5/KBI1/PGM, 39 RB6/KBI2/PGC, 40 RB7/KBI3/PGD

## PIC30F2010-28Pin
designator U
pins: 1 ~{MCL}RRE3, 2 VRef+/RB0, 3 VRef-/RB1, 4 RB2, 5 RB3, 6 RB4, 7 RB5, 8 VSS, 9 OSC1, 10 OSC2, 11 RC13, 12 RC14, 13 VDD, 14 RD1, 15 RD0, 16 RE8, 17 ~{PGD}, 18 PGC, 19 VSS, 20 VDD, 21 PWM3H/RE5, 22 PWM3L/RE4, 23 PWM2H/RE2, 24 PWM2L/RE2, 25 PWM1H/RE1, 26 PWM1L/RE0, 27 AVss, 28 AVdd

## PIC30F2010-28Pin-Big
designator U
pins: 1 ~{MCL}RRE3, 2 VRef+/RB0, 3 VRef-/RB1, 4 RB2, 5 RB3, 6 RB4, 7 RB5, 8 VSS, 9 OSC1, 10 OSC2, 11 RC13, 12 RC14, 13 VDD, 14 RD1, 15 RD0, 16 RE8, 17 ~{PGD}, 18 PGC, 19 VSS, 20 VDD, 21 PWM3H/RE5, 22 PWM3L/RE4, 23 PWM2H/RE2, 24 PWM2L/RE2, 25 PWM1H/RE1, 26 PWM1L/RE0, 27 AVss, 28 AVdd

## PL2303
designator U?
footprint SSOP-28 (Footprint not found)
pins: 1 TXD, 2 DTR_N, 3 RTS_N, 4 VDD_232, 5 RXD, 6 RI_N, 7 GND, 8 VDD, 9 DSR_N, 10 DCD_N, 11 CTS_N, 12 SHTD_N, 13 EE_Clk, 14 EE_Data, 15 DP, 16 DM, 17 VDD_3V3, 18 GND_3V3, 19 ReSet, 20 VDD, 21 GND, 22 TRI_Mode, 23 LD_Mode, 24 VDD_PLL, 25 GND_PLL, 26 PLL_Test, 27 OSC1, 28 OSC2

## PNP
designator Q?, comment BC557
pins: 1 EMITTER, 2 BASE, 3 COLLECTOR

## PNP-2N3906-TO92
designator Q?, comment 2N3906
footprint TO92-2N3906
pins: B BASE, C COLLECTOR, E EMITTER

## PNP-BC557
designator Q?, comment BC557
footprint TO92-BC557-Leaded
pins: 1 EMITTER, 2 BASE, 3 COLLECTOR

## PNP-BC557-SOT23
designator Q?, comment BC557-SMD = BC847
footprint SOT23 (SOT23,Transistor,Doide)
pins: 1 BASE, 2 EMITTER, 3 COLLECTOR

## PNP-BC640
designator Q?, comment C640-PNP
footprint to92 (BC547)
pins: 1 COLLECTOR, 2 BASE, 3 EMITTER

## Printer 30Pin Con
designator J
pins: 1 PHK, 2 VSEN, 3 PHE, 4 NC, 5 NC, 6 VH, 7 VH, 8 DI, 9 Clk, 10 GND, 11 GND, 12 STB6, 13 STB5, 14 STB4, 15 VDD, 16 TH, 17 TH, 18 STB3, 19 STB2, 20 STB1, 21 GND, 22 GND, 23 ~{LATCH}, 24 DO, 25 VH, 26 VH, 27 MT A, 28 MT ~{A}, 29 MT B, 30 MT ~{B}

## PS Isolated 5V = 5V
designator PS?
PS Isolated 5V = 5V Add on Cord
pins: 1 InPut 5V, 2 GND, 3 GND1, 4 5V1

## PulseTrans 4Pins
designator T?, comment EE-13 Trans 6Pins
part A pins: 1, 2
part B pins: 3, 4

## PulseTrans 6Pins
designator T?, comment EE-13 Trans 6Pins
footprint PulseTra6Pin
pins: 1, 2, 3, 4, 5, 6

## PUT -2N6027
designator U?, comment PJT
Programble Unijection Transister
footprint TO92 - 2N6027 (Footprint not found)
pins: 1 Anode, 2 Gate, 3 Cothode

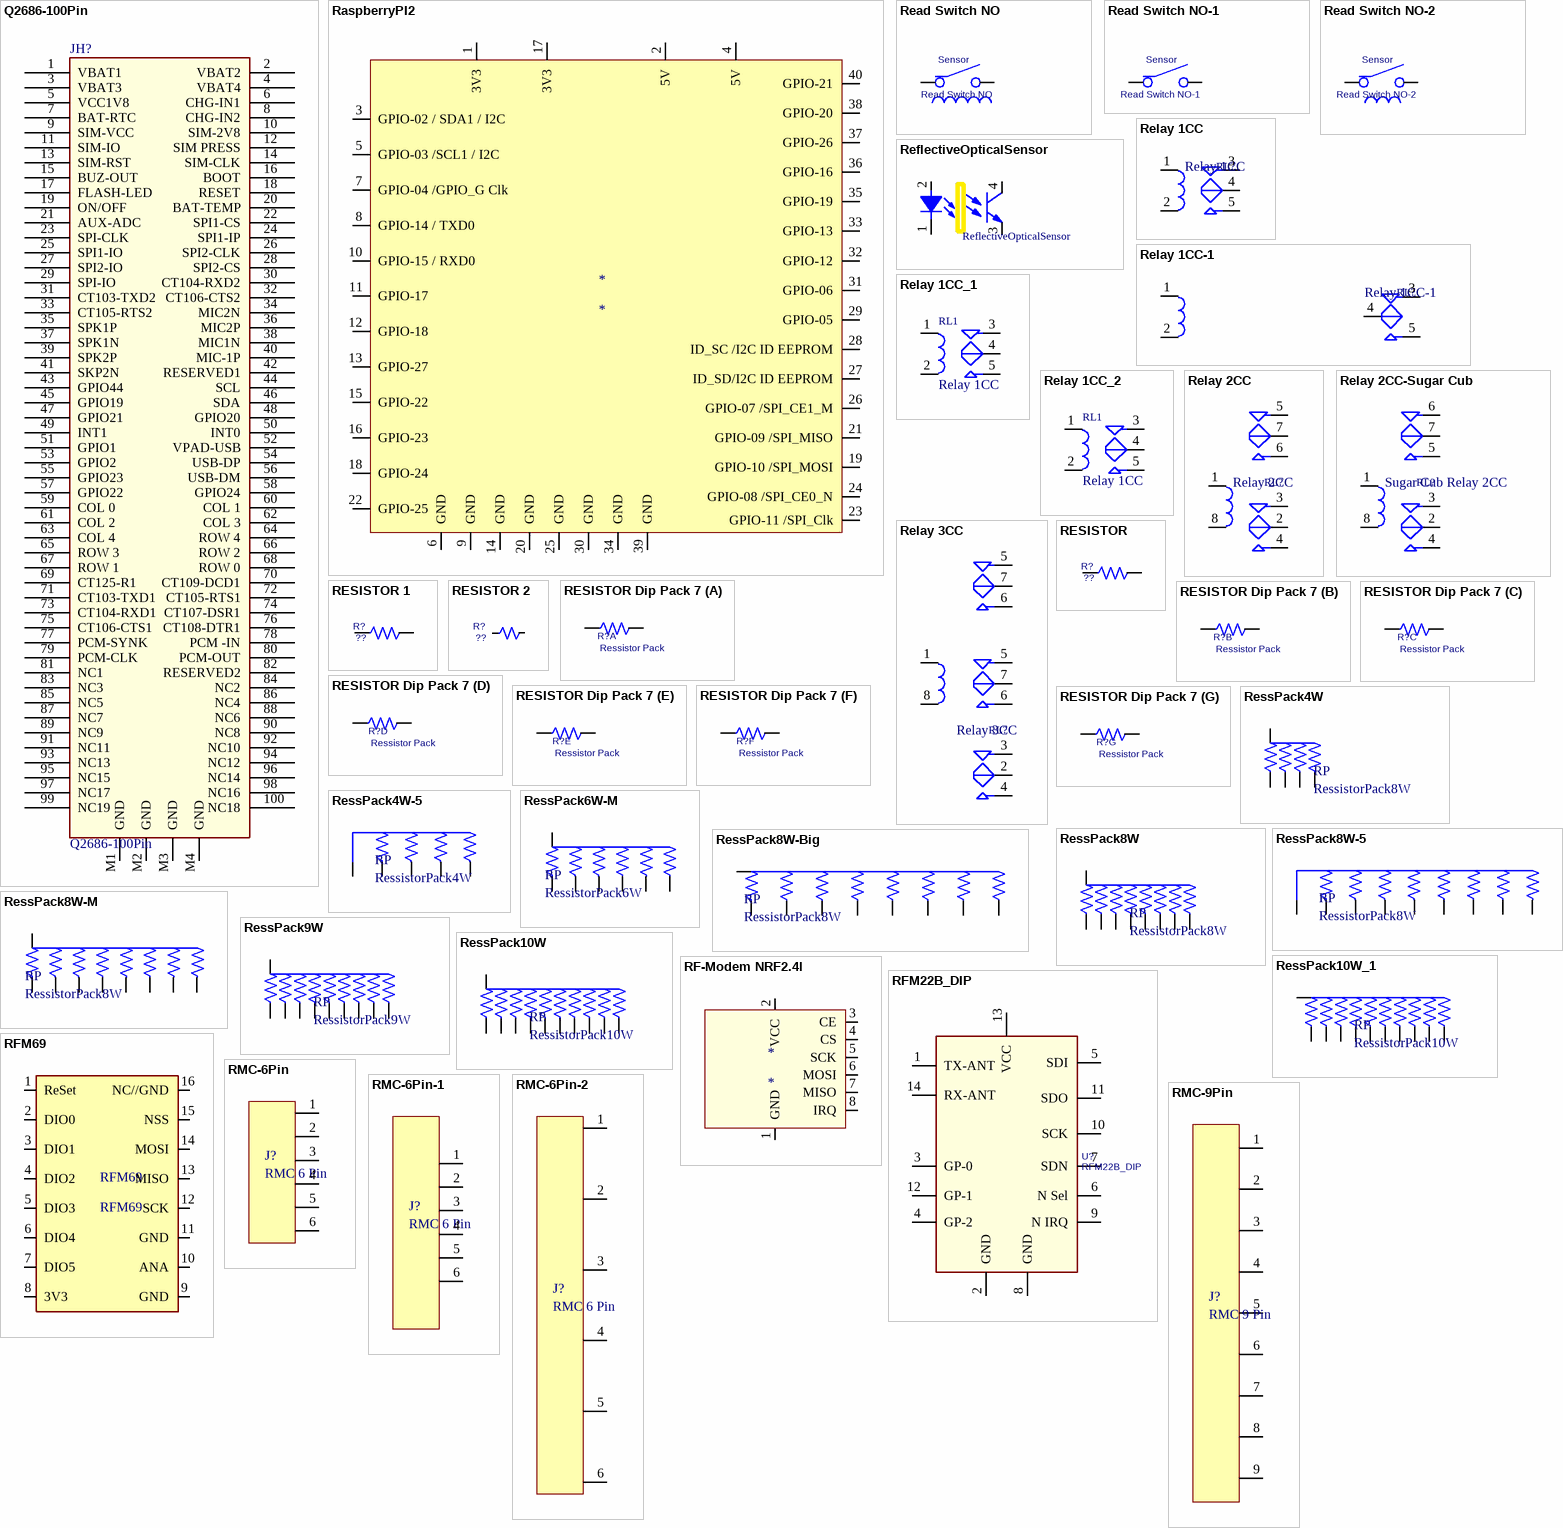
[diagram p29: symbols Q2686-100Pin to RMC-9Pin]

## Q2686-100Pin
designator JH?
footprint Q2686-100Pin (Q2686-100PIN)
pins: 1 VBAT1, 2 VBAT2, 3 VBAT3, 4 VBAT4, 5 VCC1V8, 6 CHG-IN1, 7 BAT-RTC, 8 CHG-IN2, 9 SIM-VCC, 10 SIM-2V8, 11 SIM-IO, 12 SIM PRESS, 13 SIM-RST, 14 SIM-CLK, 15 BUZ-OUT, 16 BOOT, 17 FLASH-LED, 18 RESET, 19 ON/OFF, 20 BAT-TEMP, 21 AUX-ADC, 22 SPI1-CS, 23 SPI-CLK, 24 SPI1-IP, 25 SPI1-IO, 26 SPI2-CLK, 27 SPI2-IO, 28 SPI2-CS, 29 SPI-IO, 30 CT104-RXD2, 31 CT103-TXD2, 32 CT106-CTS2, 33 CT105-RTS2, 34 MIC2N, 35 SPK1P, 36 MIC2P, 37 SPK1N, 38 MIC1N, 39 SPK2P, 40 MIC-1P, 41 SKP2N, 42 RESERVED1, 43 GPIO44, 44 SCL, 45 GPIO19, 46 SDA, 47 GPIO21, 48 GPIO20, 49 INT1, 50 INT0, 51 GPIO1, 52 VPAD-USB, 53 GPIO2, 54 USB-DP, 55 GPIO23, 56 USB-DM, 57 GPIO22, 58 GPIO24, 59 COL 0, 60 COL 1, 61 COL 2, 62 COL 3, 63 COL 4, 64 ROW 4, 65 ROW 3, 66 ROW 2, 67 ROW 1, 68 ROW 0, 69 CT125-R1, 70 CT109-DCD1, 71 CT103-TXD1, 72 CT105-RTS1, 73 CT104-RXD1, 74 CT107-DSR1, 75 CT106-CTS1, 76 CT108-DTR1, 77 PCM-SYNK, 78 PCM -IN, 79 PCM-CLK, 80 PCM-OUT, 81 NC1, 82 RESERVED2, 83 NC3, 84 NC2, 85 NC5, 86 NC4, 87 NC7, 88 NC6, 89 NC9, 90 NC8, 91 NC11, 92 NC10, 93 NC13, 94 NC12, 95 NC15, 96 NC14, 97 NC17, 98 NC16, 99 NC19, 100 NC18, M1 GND, M2 GND, M3 GND, M4 GND

## RaspberryPI2
designator *
pins: 1 3V3, 2 5V, 3 GPIO-02 / SDA1 / I2C, 4 5V, 5 GPIO-03 /SCL1 / I2C, 6 GND, 7 GPIO-04 /GPIO_G Clk, 8 GPIO-14 / TXD0, 9 GND, 10 GPIO-15 / RXD0, 11 GPIO-17, 12 GPIO-18, 13 GPIO-27, 14 GND, 15 GPIO-22, 16 GPIO-23, 17 3V3, 18 GPIO-24, 19 GPIO-10 /SPI_MOSI, 20 GND, 21 GPIO-09 /SPI_MISO, 22 GPIO-25, 23 GPIO-11 /SPI_Clk, 24 GPIO-08 /SPI_CE0_N, 25 GND, 26 GPIO-07 /SPI_CE1_M, 27 ID_SD/I2C ID EEPROM, 28 ID_SC /I2C ID EEPROM, 29 GPIO-05, 30 GND, 31 GPIO-06, 32 GPIO-12, 33 GPIO-13, 34 GND, 35 GPIO-19, 36 GPIO-16, 37 GPIO-26, 38 GPIO-20, 39 GND, 40 GPIO-21

## Read Switch NO
designator Sensor
pins: 1, 2

## Read Switch NO-1
designator Sensor
footprint ReadSwicth20MM
pins: 1, 2

## Read Switch NO-2
designator Sensor
footprint ReadSwicth22MM
pins: 1, 2

## ReflectiveOpticalSensor
designator ReflectiveOpticalSensor, comment TCRT5000=ReflectiveOpticalSensor  (value not drawn)
TCRT5000 (Vishay) =ReflectiveOpticalSensor (infrared emitter and phototransistor)
footprint TCRT5000 (Reflective Optical Sensor)
pins: 1 CATHODE, 2 ANODE, 3 EMITTER, 4 COLLECTOR

## Relay 1CC
designator RL?
pins: 1, 2, 3 NC, 4 COM, 5 NO

## Relay 1CC-1
designator RL?
pins: 1, 2, 3 NC, 4 COM, 5 NO

## Relay 1CC_1
designator RL1, comment Relay 1CC
pins: 1, 2, 3 NC, 4 COM, 5 NO

## Relay 1CC_2
designator RL1, comment Relay 1CC
pins: 1, 2, 3 NC, 4 COM, 5 NO

## Relay 2CC
designator RL?
pins: 1, 2 COM1, 3 NC, 4 NO, 5 NC, 6 NO, 7 COM, 8

## Relay 2CC-Sugar Cub
designator RL?, comment Sugar Cub Relay 2CC
footprint Relay SugarCube2CC
pins: 1, 2 COM1, 3 NC, 4 NO, 5 NO, 6 NC, 7 COM, 8

## Relay 3CC
designator RL?
pins: 1, 2 COM1, 3 NC, 4 NO, 5 NC, 5 NC, 6 NO, 6 NO, 7 COM, 7 COM, 8

## RESISTOR
designator R?, comment ??
footprint ResH10MM
footprint 1206 (ChipResistor/ Capcitor)
pins: 1, 2

## RESISTOR 1
designator R?, comment ??
footprint ResH10MM
footprint 1206 (ChipResistor/ Capcitor)
pins: 1, 2

## RESISTOR 2
designator R?, comment ??
footprint ResH10MM
footprint 1206 (ChipResistor/ Capcitor)
pins: 1, 2

## RESISTOR Dip Pack 7
designator R?, comment Ressistor Pack
part A pins: 1, 14
part B pins: 2, 13
part C pins: 3, 12
part D pins: 4, 11
part E pins: 5, 10
part F pins: 6, 9
part G pins: 7, 8

## RessPack4W
designator RP, comment RessistorPack8W
footprint RP4W (Footprint not found)
pins: 1, 2, 3, 4, 5

## RessPack4W-5
designator RP, comment RessistorPack4W
footprint RP4W (Footprint not found)
pins: 1, 2, 3, 4, 5

## RessPack6W-M
designator RP, comment RessistorPack6W
footprint RP8W (Footprint not found)
pins: 1, 2, 3, 4, 5, 6, 7

## RessPack8W
designator RP, comment RessistorPack8W
footprint RP8W (Footprint not found)
pins: 1, 2, 3, 4, 5, 6, 7, 8, 9

## RessPack8W-5
designator RP, comment RessistorPack8W
footprint RP8W (Footprint not found)
pins: 1, 2, 3, 4, 5, 6, 7, 8, 9

## RessPack8W-Big
designator RP, comment RessistorPack8W
footprint RP8W (Footprint not found)
pins: 1, 2, 3, 4, 5, 6, 7, 8, 9

## RessPack8W-M
designator RP, comment RessistorPack8W
footprint RP8W (Footprint not found)
pins: 1, 2, 3, 4, 5, 6, 7, 8, 9

## RessPack9W
designator RP, comment RessistorPack9W
footprint RP9W (Footprint not found)
pins: 1, 2, 3, 4, 5, 6, 7, 8, 9, 10

## RessPack10W
designator RP, comment RessistorPack10W
footprint RP10W (RessistorPack10W)
pins: 1, 2, 3, 4, 5, 6, 7, 8, 9, 10, 11

## RessPack10W_1
designator RP, comment RessistorPack10W
footprint RP10W (RessistorPack10W)
pins: 1, 2, 3, 4, 5, 6, 7, 8, 9, 10, 11

## RF-Modem NRF2.4l
designator *
pins: 1 GND, 2 VCC, 3 CE, 4 CS, 5 SCK, 6 MOSI, 7 MISO, 8 IRQ

## RFM22B_DIP
designator U?
footprint RFM22B_DIP (RFM)
pins: 1 TX-ANT, 2 GND, 3 GP-0, 4 GP-2, 5 SDI, 6 N Sel, 7 SDN, 8 GND, 9 N IRQ, 10 SCK, 11 SDO, 12 GP-1, 13 VCC, 14 RX-ANT

## RFM69
designator RFM69
pins: 1 ReSet, 2 DIO0, 3 DIO1, 4 DIO2, 5 DIO3, 6 DIO4, 7 DIO5, 8 3V3, 9 GND, 10 ANA, 11 GND, 12 SCK, 13 MISO, 14 MOSI, 15 NSS, 16 NC//GND

## RMC-6Pin
designator J?, comment RMC 6 Pin
pins: 1, 2 3, 3 5, 4 7, 5 9, 6 11

## RMC-6Pin-1
designator J?, comment RMC 6 Pin
pins: 1, 2 3, 3 5, 4 7, 5 9, 6 11

## RMC-6Pin-2
designator J?, comment RMC 6 Pin
pins: 1, 2 3, 3 5, 4 7, 5 9, 6 11

## RMC-9Pin
designator J?, comment RMC 9 Pin
pins: 1, 2 3, 3 5, 4 7, 5 9, 6 11, 7, 8, 9

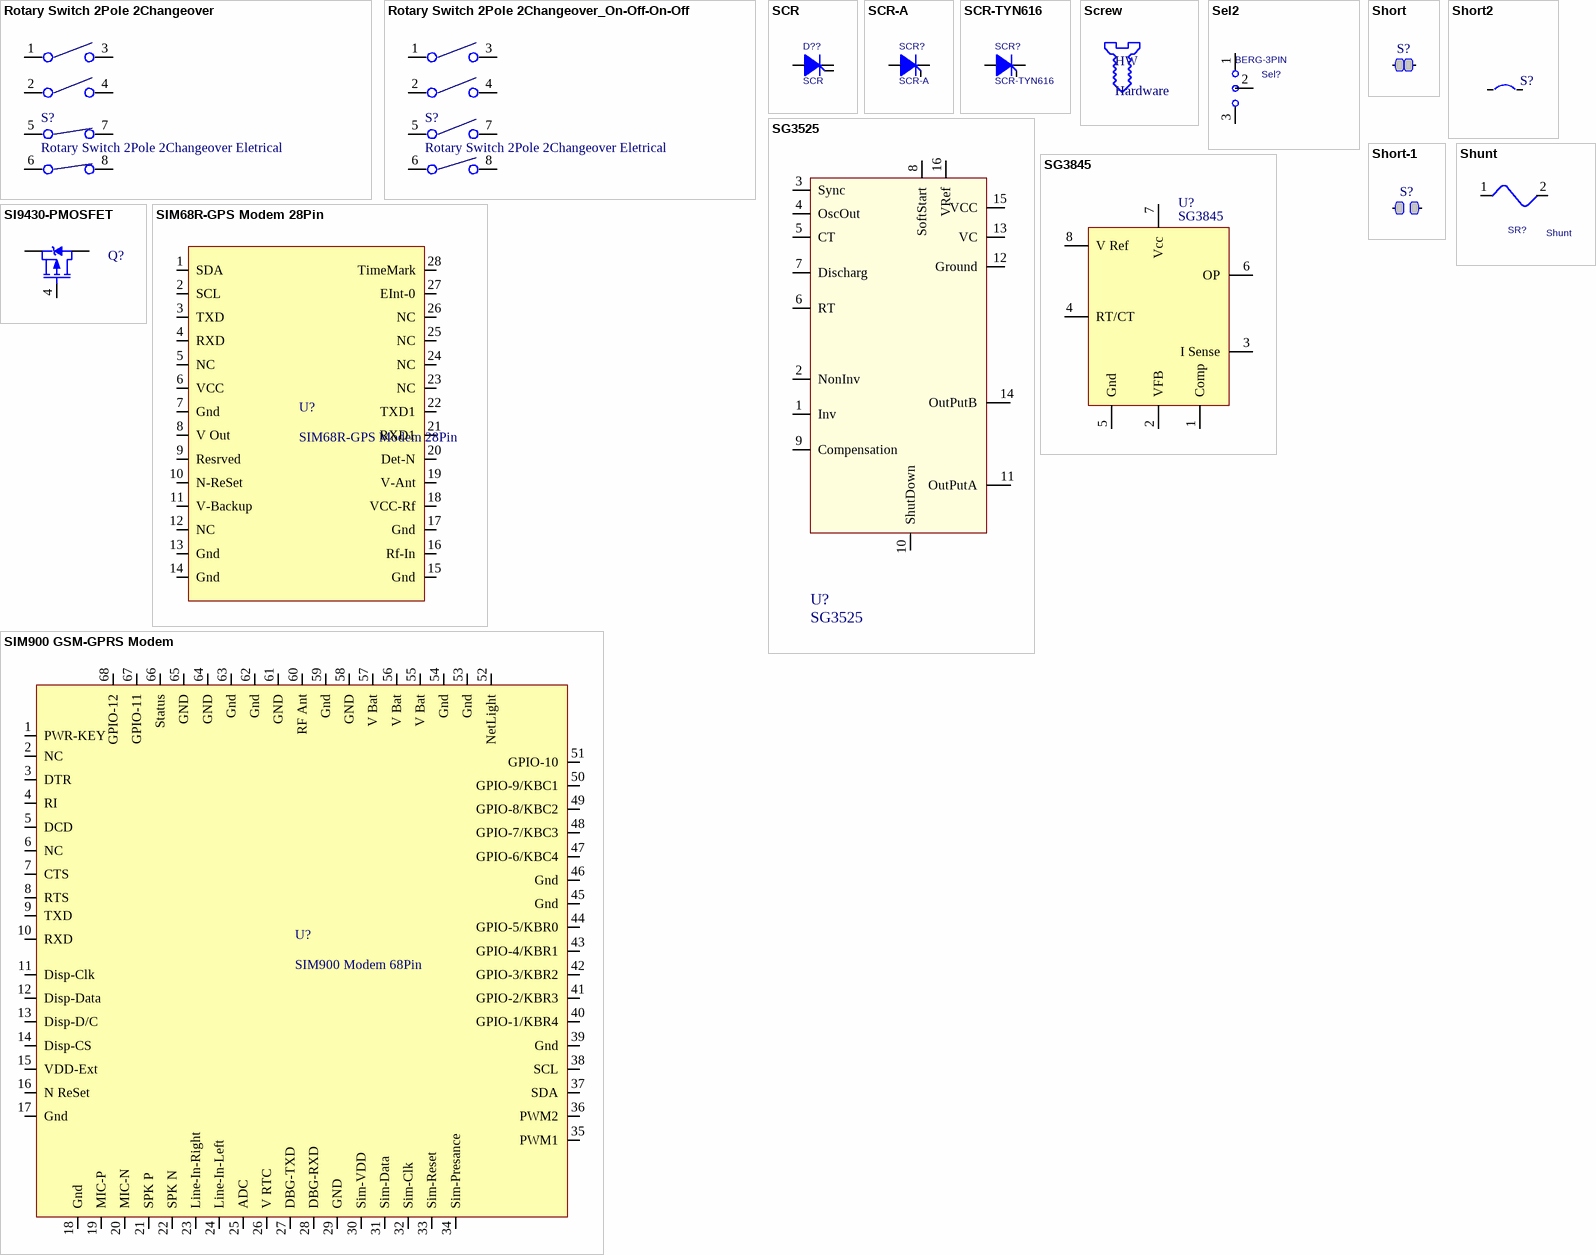
[diagram p30: symbols Rotary Switch 2Pole 2Changeover to SIM900 GSM-GPRS Modem]

## Rotary Switch 2Pole 2Changeover
designator S?, comment Rotary Switch 2Pole 2Changeover Eletrical
pins: 1, 2, 3, 4, 5, 6, 7, 8

## Rotary Switch 2Pole 2Changeover_On-Off-On-Off
designator S?, comment Rotary Switch 2Pole 2Changeover Eletrical
pins: 1, 2, 3, 4, 5, 6, 7, 8

## SCR
designator D??
pins: 1 Cothode, 2 Gate, 3 Anode

## SCR-A
designator SCR?
pins: 1 Cothode, 2 Gate, 3 Anode

## SCR-TYN616
designator SCR?
footprint TYN616
pins: 1 Cothode, 2 Anode, 3 Gate

## Screw
designator HW, comment Hardware
footprint Screw (Screw Fitting)

## Sel2
designator Sel?, comment BERG-3PIN
pins: 1, 2, 3

## SG3525
designator U?
footprint DIP-16Pin (Footprint not found)
pins: 1 Inv, 2 NonInv, 3 Sync, 4 OscOut, 5 CT, 6 RT, 7 Discharg, 8 SoftStart, 9 Compensation, 10 ShutDown, 11 OutPutA, 12 Ground, 13 VC, 14 OutPutB, 15 VCC, 16 VRef

## SG3845
designator U?
footprint Dip-8
pins: 1 Comp, 2 VFB, 3 I Sense, 4 RT/CT, 5 Gnd, 6 OP, 7 Vcc, 8 V Ref

## Short
designator S?, comment SMD Short  (value not drawn)
footprint Short-SMD -0402 (Short-SMD-0402)
pins: 1, 2

## Short2
designator S?
SMD short Jumper
footprint 0603 (Chip Resistor / Capcitor)
pins: 1, 2

## Short-1
designator S?, comment SMD Short  (value not drawn)
footprint Short-SMD-0603
pins: 1, 2

## Shunt
designator SR?
footprint Shunt-10MM
pins: 1, 2

## SI9430-PMOSFET
designator Q?, comment IRF9Z34N PChannel MOSFET  (value not drawn)
P-Channel Mos FET
footprint SOP-8 (SOP-8 ,1232,24C256)
pins: 1 S, 2 S, 3 S, 4 G, 5 D, 6 D, 7 D, 8 D

## SIM68R-GPS Modem 28Pin
designator U?
footprint SIM68R-GPS Modem 28Pin (Footprint not found)
pins: 1 SDA, 2 SCL, 3 TXD, 4 RXD, 5 NC, 6 VCC, 7 Gnd, 8 V Out, 9 Resrved, 10 N-ReSet, 11 V-Backup, 12 NC, 13 Gnd, 14 Gnd, 15 Gnd, 16 Rf-In, 17 Gnd, 18 VCC-Rf, 19 V-Ant, 20 Det-N, 21 RXD1, 22 TXD1, 23 NC, 24 NC, 25 NC, 26 NC, 27 EInt-0, 28 TimeMark

## SIM900 GSM-GPRS Modem
designator U?, comment SIM900 Modem 68Pin
footprint SIM900 GSM-GPRS Modem (Footprint not found)
pins: 1 PWR-KEY, 2 NC, 3 DTR, 4 RI, 5 DCD, 6 NC, 7 CTS, 8 RTS, 9 TXD, 10 RXD, 11 Disp-Clk, 12 Disp-Data, 13 Disp-D/C, 14 Disp-CS, 15 VDD-Ext, 16 N ReSet, 17 Gnd, 18 Gnd, 19 MIC-P, 20 MIC-N, 21 SPK P, 22 SPK N, 23 Line-In-Right, 24 Line-In-Left, 25 ADC, 26 V RTC, 27 DBG-TXD, 28 DBG-RXD, 29 GND, 30 Sim-VDD, 31 Sim-Data, 32 Sim-Clk, 33 Sim-Reset, 34 Sim-Presance, 35 PWM1, 36 PWM2, 37 SDA, 38 SCL, 39 Gnd, 40 GPIO-1/KBR4, 41 GPIO-2/KBR3, 42 GPIO-3/KBR2, 43 GPIO-4/KBR1, 44 GPIO-5/KBR0, 45 Gnd, 46 Gnd, 47 GPIO-6/KBC4, 48 GPIO-7/KBC3, 49 GPIO-8/KBC2, 50 GPIO-9/KBC1, 51 GPIO-10, 52 NetLight, 53 Gnd, 54 Gnd, 55 V Bat, 56 V Bat, 57 V Bat, 58 GND, 59 Gnd, 60 RF Ant, 61 GND, 62 Gnd, 63 Gnd, 64 GND, 65 GND, 66 Status, 67 GPIO-11, 68 GPIO-12

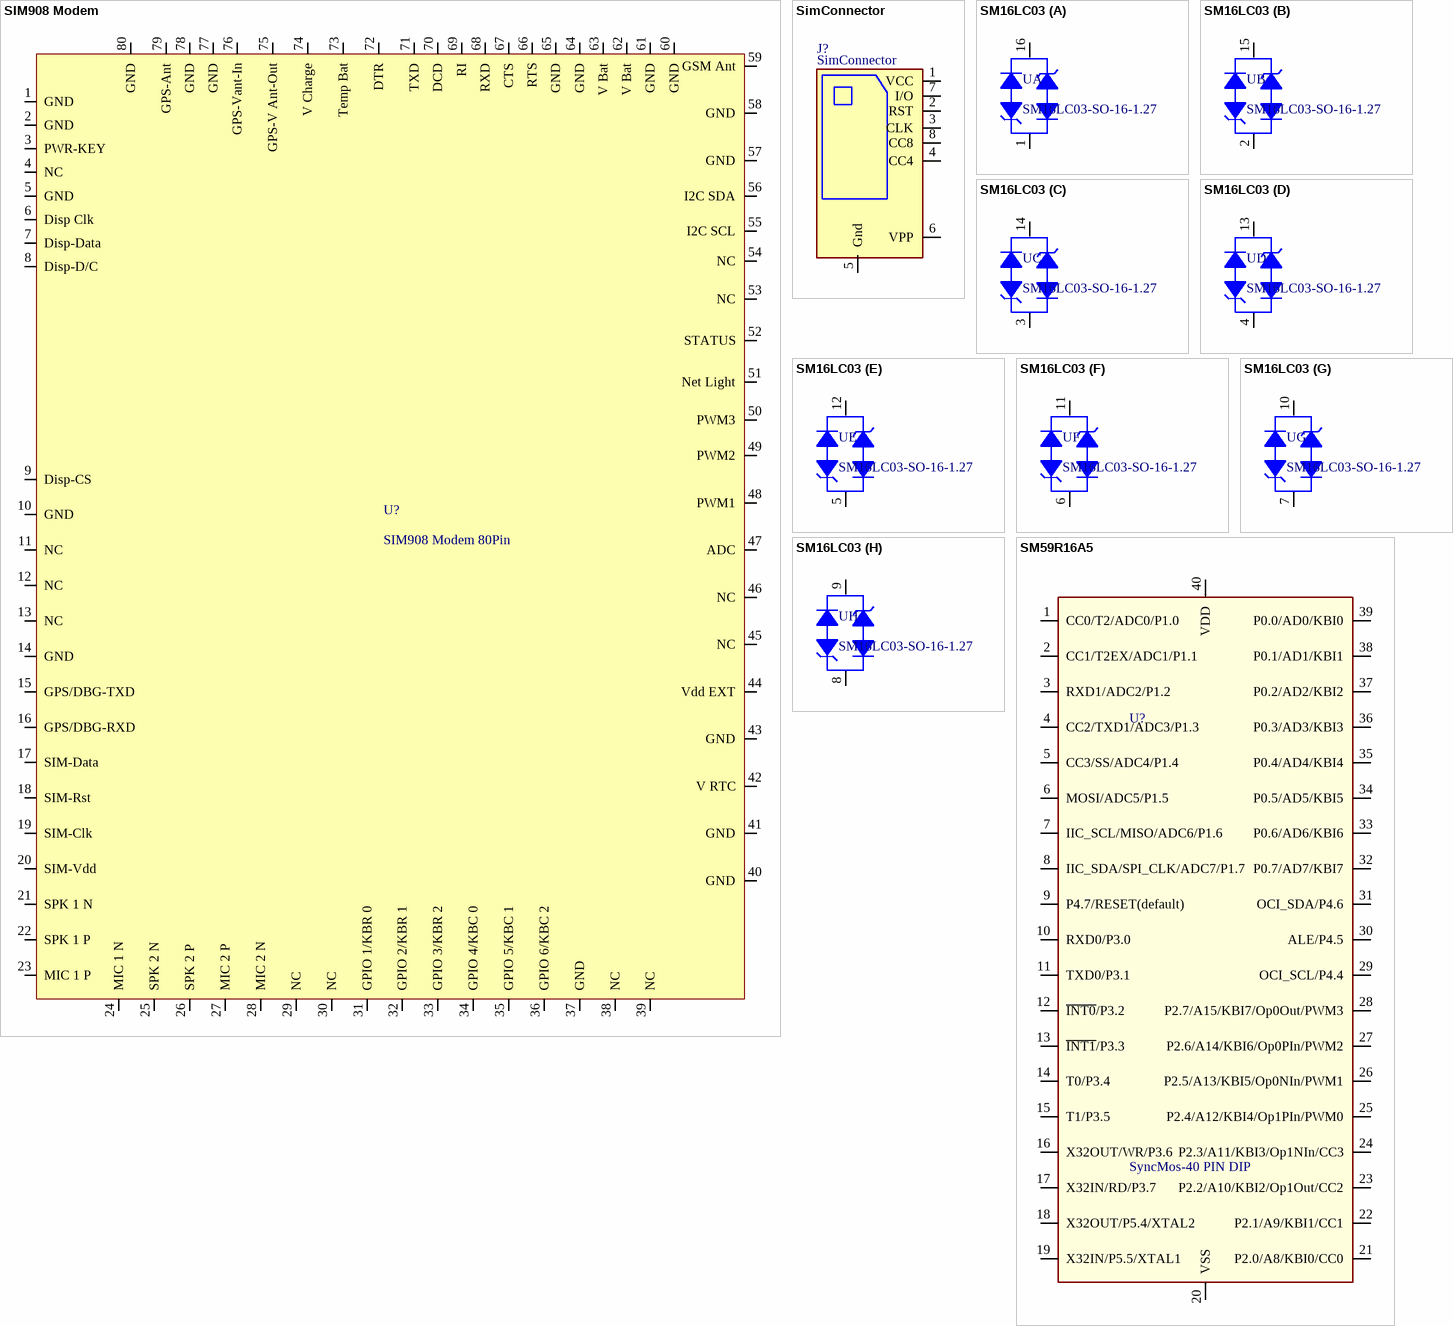
[diagram p31: symbols SIM908 Modem to SM59R16A5]

## SIM908 Modem
designator U?, comment SIM908 Modem 80Pin
footprint SIM908 Modem 80Pin (Footprint not found)
pins: 1 GND, 2 GND, 3 PWR-KEY, 4 NC, 5 GND, 6 Disp Clk, 7 Disp-Data, 8 Disp-D/C, 9 Disp-CS, 10 GND, 11 NC, 12 NC, 13 NC, 14 GND, 15 GPS/DBG-TXD, 16 GPS/DBG-RXD, 17 SIM-Data, 18 SIM-Rst, 19 SIM-Clk, 20 SIM-Vdd, 21 SPK 1 N, 22 SPK 1 P, 23 MIC 1 P, 24 MIC 1 N, 25 SPK 2 N, 26 SPK 2 P, 27 MIC 2 P, 28 MIC 2 N, 29 NC, 30 NC, 31 GPIO 1/KBR 0, 32 GPIO 2/KBR 1, 33 GPIO 3/KBR 2, 34 GPIO 4/KBC 0, 35 GPIO 5/KBC 1, 36 GPIO 6/KBC 2, 37 GND, 38 NC, 39 NC, 40 GND, 41 GND, 42 V RTC, 43 GND, 44 Vdd EXT, 45 NC, 46 NC, 47 ADC, 48 PWM1, 49 PWM2, 50 PWM3, 51 Net Light, 52 STATUS, 53 NC, 54 NC, 55 I2C SCL, 56 I2C SDA, 57 GND, 58 GND, 59 GSM Ant, 60 GND, 61 GND, 62 V Bat, 63 V Bat, 64 GND, 65 GND, 66 RTS, 67 CTS, 68 RXD, 69 RI, 70 DCD, 71 TXD, 72 DTR, 73 Temp Bat, 74 V Charge, 75 GPS-V Ant-Out, 76 GPS-Vant-In, 77 GND, 78 GND, 79 GPS-Ant, 80 GND

## SimConnector
designator J?
footprint Sim-Connector
footprint Sim-Connector
pins: 1 VCC, 2 RST, 3 CLK, 4 CC4, 5 Gnd, 6 VPP, 7 I/O, 8 CC8

## SM16LC03
designator U, comment SM16LC03-SO-16-1.27
footprint SOP-16 (SOP-16=)
part A pins: 1, 16
part B pins: 2, 15
part C pins: 3, 14
part D pins: 4, 13
part E pins: 5, 12
part F pins: 6, 11
part G pins: 7, 10
part H pins: 8, 9

## SM59R16A5
designator U?, comment SyncMos-40 PIN DIP
footprint DIP-40
pins: 1 CC0/T2/ADC0/P1.0, 2 CC1/T2EX/ADC1/P1.1, 3 RXD1/ADC2/P1.2, 4 CC2/TXD1/ADC3/P1.3, 5 CC3/SS/ADC4/P1.4, 6 MOSI/ADC5/P1.5, 7 IIC_SCL/MISO/ADC6/P1.6, 8 IIC_SDA/SPI_CLK/ADC7/P1.7, 9 P4.7/RESET(default), 10 RXD0/P3.0, 11 TXD0/P3.1, 12 ~{INT0}/P3.2, 13 ~{INT1}/P3.3, 14 T0/P3.4, 15 T1/P3.5, 16 X32OUT/WR/P3.6, 17 X32IN/RD/P3.7, 18 X32OUT/P5.4/XTAL2, 19 X32IN/P5.5/XTAL1, 20 VSS, 21 P2.0/A8/KBI0/CC0, 22 P2.1/A9/KBI1/CC1, 23 P2.2/A10/KBI2/Op1Out/CC2, 24 P2.3/A11/KBI3/Op1NIn/CC3, 25 P2.4/A12/KBI4/Op1PIn/PWM0, 26 P2.5/A13/KBI5/Op0NIn/PWM1, 27 P2.6/A14/KBI6/Op0PIn/PWM2, 28 P2.7/A15/KBI7/Op0Out/PWM3, 29 OCI_SCL/P4.4, 30 ALE/P4.5, 31 OCI_SDA/P4.6, 32 P0.7/AD7/KBI7, 33 P0.6/AD6/KBI6, 34 P0.5/AD5/KBI5, 35 P0.4/AD4/KBI4, 36 P0.3/AD3/KBI3, 37 P0.2/AD2/KBI2, 38 P0.1/AD1/KBI1, 39 P0.0/AD0/KBI0, 40 VDD

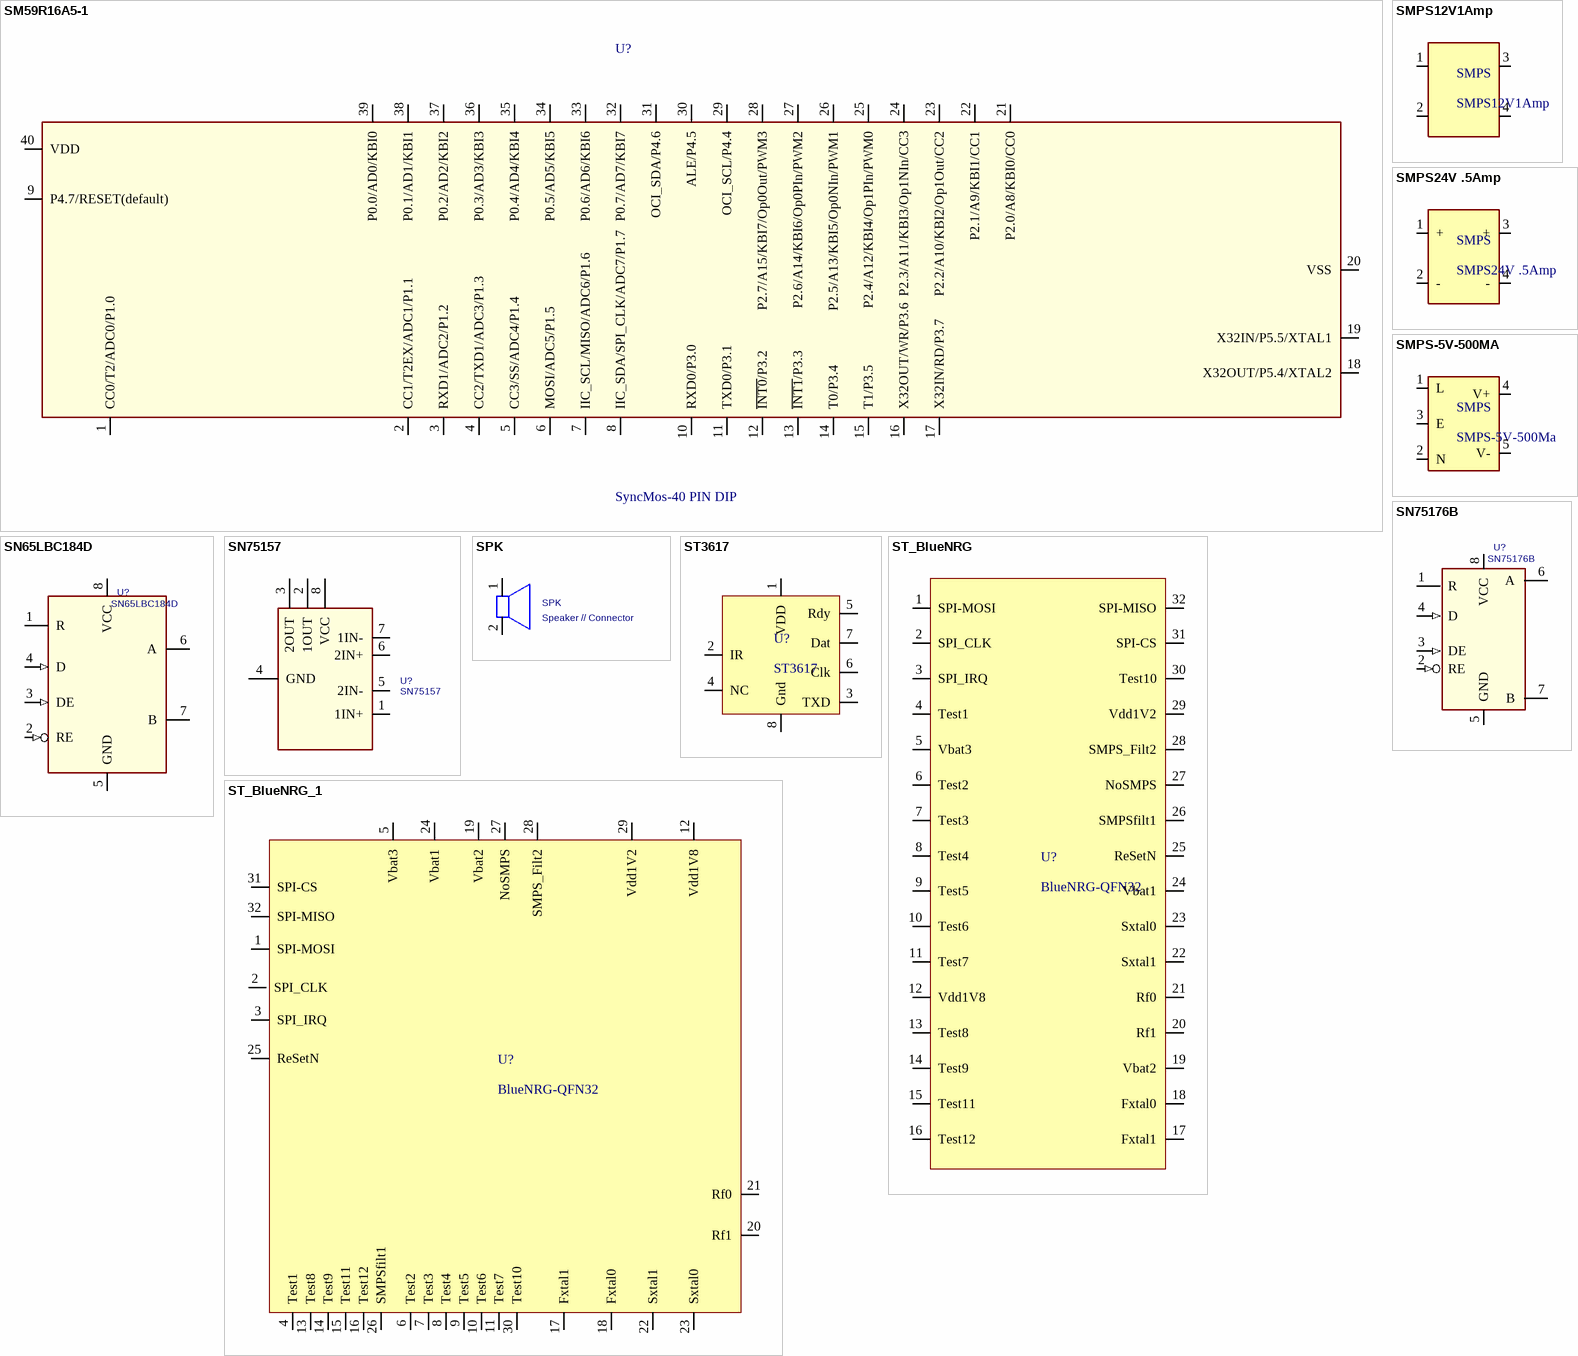
[diagram p32: symbols SM59R16A5-1 to ST_BlueNRG_1]

## SM59R16A5-1
designator U?, comment SyncMos-40 PIN DIP
footprint DIP-40
pins: 1 CC0/T2/ADC0/P1.0, 2 CC1/T2EX/ADC1/P1.1, 3 RXD1/ADC2/P1.2, 4 CC2/TXD1/ADC3/P1.3, 5 CC3/SS/ADC4/P1.4, 6 MOSI/ADC5/P1.5, 7 IIC_SCL/MISO/ADC6/P1.6, 8 IIC_SDA/SPI_CLK/ADC7/P1.7, 9 P4.7/RESET(default), 10 RXD0/P3.0, 11 TXD0/P3.1, 12 ~{INT0}/P3.2, 13 ~{INT1}/P3.3, 14 T0/P3.4, 15 T1/P3.5, 16 X32OUT/WR/P3.6, 17 X32IN/RD/P3.7, 18 X32OUT/P5.4/XTAL2, 19 X32IN/P5.5/XTAL1, 20 VSS, 21 P2.0/A8/KBI0/CC0, 22 P2.1/A9/KBI1/CC1, 23 P2.2/A10/KBI2/Op1Out/CC2, 24 P2.3/A11/KBI3/Op1NIn/CC3, 25 P2.4/A12/KBI4/Op1PIn/PWM0, 26 P2.5/A13/KBI5/Op0NIn/PWM1, 27 P2.6/A14/KBI6/Op0PIn/PWM2, 28 P2.7/A15/KBI7/Op0Out/PWM3, 29 OCI_SCL/P4.4, 30 ALE/P4.5, 31 OCI_SDA/P4.6, 32 P0.7/AD7/KBI7, 33 P0.6/AD6/KBI6, 34 P0.5/AD5/KBI5, 35 P0.4/AD4/KBI4, 36 P0.3/AD3/KBI3, 37 P0.2/AD2/KBI2, 38 P0.1/AD1/KBI1, 39 P0.0/AD0/KBI0, 40 VDD

## SMPS12V1Amp
designator SMPS
pins: 1, 2, 3, 4

## SMPS24V .5Amp
designator SMPS
pins: 1 +, 2 -, 3 +, 4 -

## SMPS-5V-500MA
designator SMPS, comment SMPS-5V-500Ma
pins: 1 L, 2 N, 3 E, 4 V+, 5 V-

## SN65LBC184D
designator U?
485
footprint SOIC8
pins: 1 R, 2 RE (in), 3 DE (in), 4 D (in), 5 GND, 6 A, 7 B, 8 VCC

## SN75157
designator U?
485
pins: 1 1IN+, 2 1OUT, 3 2OUT, 4 GND, 5 2IN-, 6 2IN+, 7 1IN-, 8 VCC

## SN75176B
designator U?
footprint SOIC8
pins: 1 R (hiz), 2 RE (in), 3 DE (in), 4 D (in), 5 GND, 6 A (hiz), 7 B (hiz), 8 VCC

## SPK
designator SPK, comment Speaker // Connector
pins: 1 -, 2 +

## ST3617
designator U?
ST3617-Infrared Remote Controle decoder RC5 IC
footprint Dip-8
pins: 1 VDD, 2 IR, 3 TXD, 4 NC, 5 Rdy, 6 Clk, 7 Dat, 8 Gnd

## ST_BlueNRG
designator U?, comment BlueNRG-QFN32
STM32F030C6 48Pin 32K
pins: 1 SPI-MOSI, 2 SPI_CLK, 3 SPI_IRQ, 4 Test1, 5 Vbat3, 6 Test2, 7 Test3, 8 Test4, 9 Test5, 10 Test6, 11 Test7, 12 Vdd1V8, 13 Test8, 14 Test9, 15 Test11, 16 Test12, 17 Fxtal1, 18 Fxtal0, 19 Vbat2, 20 Rf1, 21 Rf0, 22 Sxtal1, 23 Sxtal0, 24 Vbat1, 25 ReSetN, 26 SMPSfilt1, 27 NoSMPS, 28 SMPS_Filt2, 29 Vdd1V2, 30 Test10, 31 SPI-CS, 32 SPI-MISO

## ST_BlueNRG_1
designator U?, comment BlueNRG-QFN32
STM32F030C6 48Pin 32K
pins: 1 SPI-MOSI, 2 SPI_CLK, 3 SPI_IRQ, 4 Test1, 5 Vbat3, 6 Test2, 7 Test3, 8 Test4, 9 Test5, 10 Test6, 11 Test7, 12 Vdd1V8, 13 Test8, 14 Test9, 15 Test11, 16 Test12, 17 Fxtal1, 18 Fxtal0, 19 Vbat2, 20 Rf1, 21 Rf0, 22 Sxtal1, 23 Sxtal0, 24 Vbat1, 25 ReSetN, 26 SMPSfilt1, 27 NoSMPS, 28 SMPS_Filt2, 29 Vdd1V2, 30 Test10, 31 SPI-CS, 32 SPI-MISO

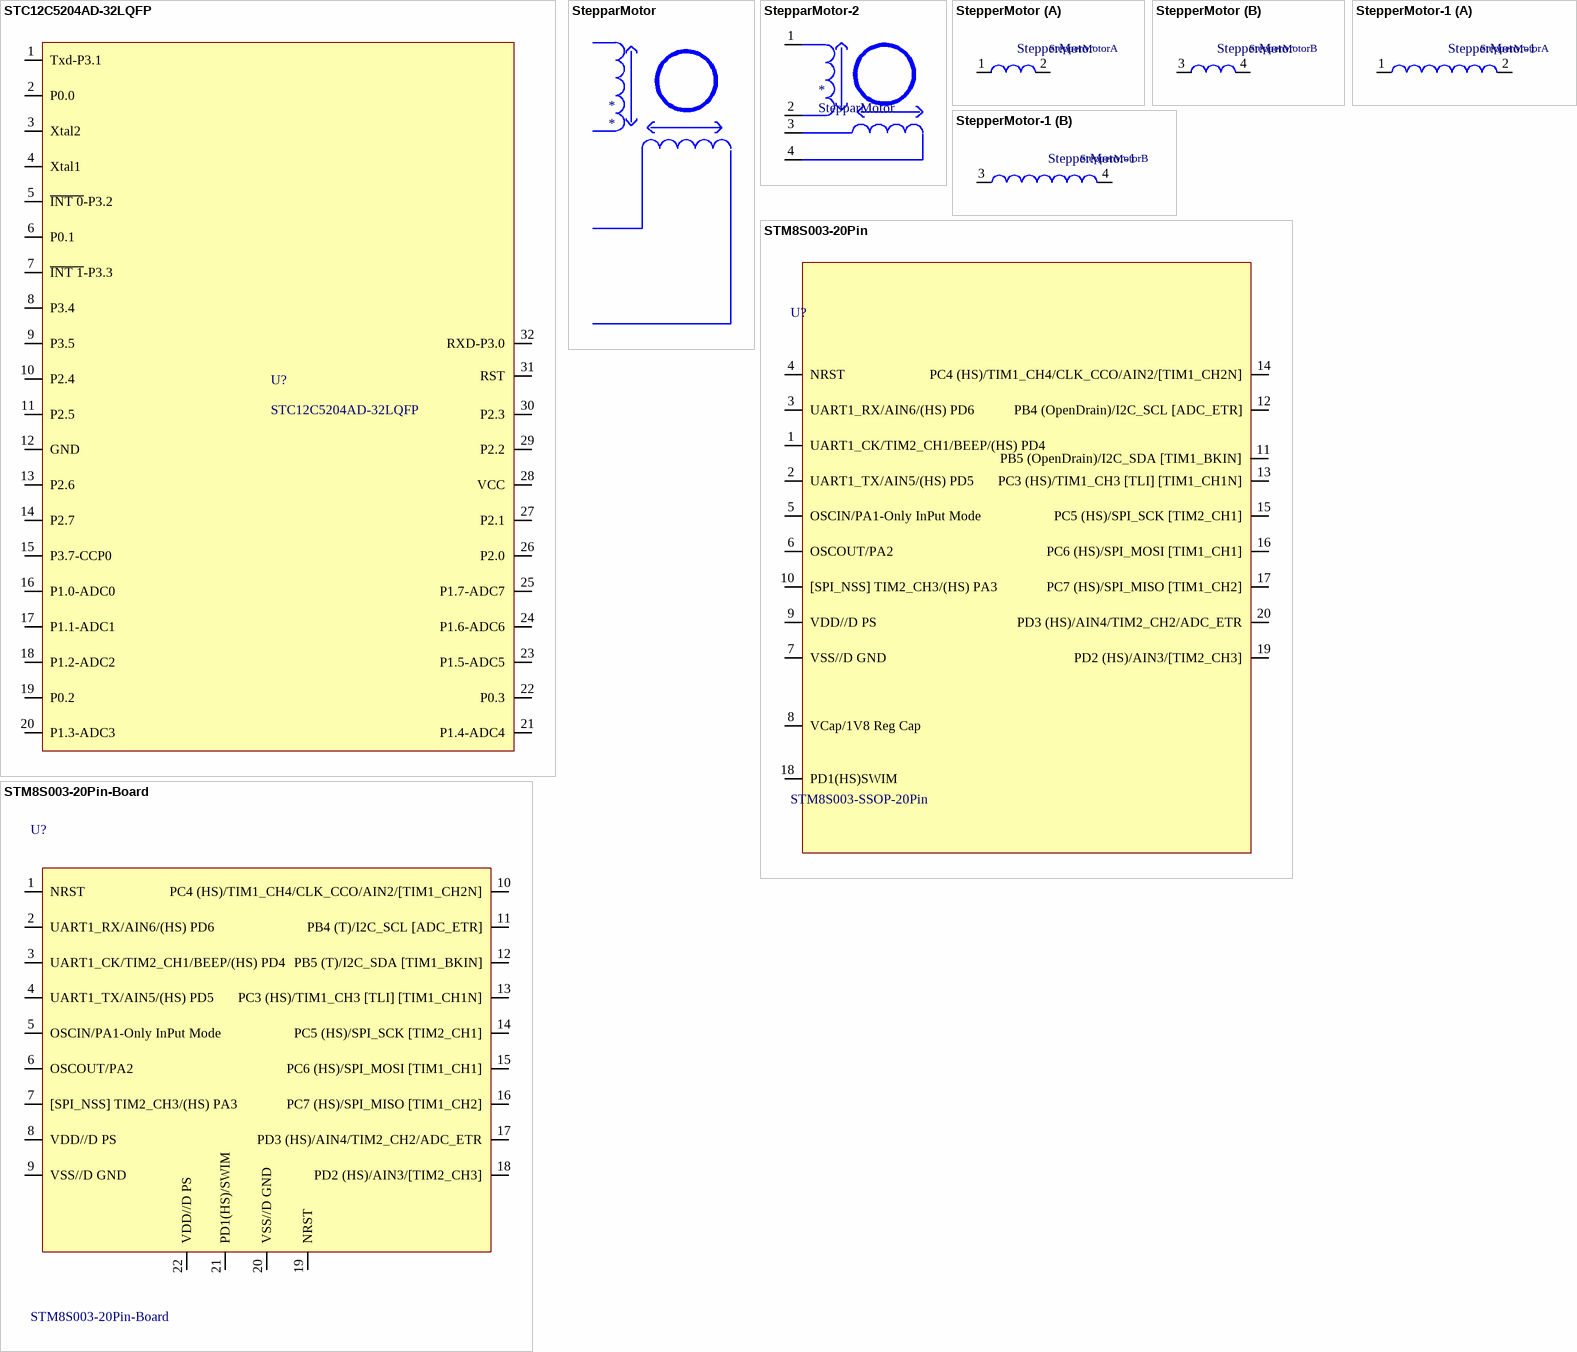
[diagram p33: symbols STC12C5204AD-32LQFP to STM8S003-20Pin-Board]

## STC12C5204AD-32LQFP
designator U?
STM32F030C6 48Pin 32K
pins: 1 Txd-P3.1, 2 P0.0, 3 Xtal2, 4 Xtal1, 5 ~{INT 0}-P3.2, 6 P0.1, 7 ~{INT 1}-P3.3, 8 P3.4, 9 P3.5, 10 P2.4, 11 P2.5, 12 GND, 13 P2.6, 14 P2.7, 15 P3.7-CCP0, 16 P1.0-ADC0, 17 P1.1-ADC1, 18 P1.2-ADC2, 19 P0.2, 20 P1.3-ADC3, 21 P1.4-ADC4, 22 P0.3, 23 P1.5-ADC5, 24 P1.6-ADC6, 25 P1.7-ADC7, 26 P2.0, 27 P2.1, 28 VCC, 29 P2.2, 30 P2.3, 31 RST, 32 RXD-P3.0

## StepparMotor
designator *

## StepparMotor-2
designator *, comment StepparMotor
pins: 1, 2, 3, 4

## StepperMotor
designator StepperMotor
part A pins: 1, 2
part B pins: 3, 4

## StepperMotor-1
designator StepperMotor
part A pins: 1, 2
part B pins: 3, 4

## STM8S003-20Pin
designator U?, comment STM8S003-SSOP-20Pin
Flash8KB,1KB,20Pin SSOP
footprint SSOP-20 4.40MM .65MM Pitch (STM8S003)
pins: 1 UART1_CK/TIM2_CH1/BEEP/(HS) PD4, 2 UART1_TX/AIN5/(HS) PD5, 3 UART1_RX/AIN6/(HS) PD6, 4 NRST, 5 OSCIN/PA1-Only InPut Mode, 6 OSCOUT/PA2, 7 VSS//D GND, 8 VCap/1V8 Reg Cap, 9 VDD//D PS, 10 [SPI_NSS] TIM2_CH3/(HS) PA3, 11 PB5 (OpenDrain)/I2C_SDA [TIM1_BKIN], 12 PB4 (OpenDrain)/I2C_SCL [ADC_ETR], 13 PC3 (HS)/TIM1_CH3 [TLI] [TIM1_CH1N], 14 PC4 (HS)/TIM1_CH4/CLK_CCO/AIN2/[TIM1_CH2N], 15 PC5 (HS)/SPI_SCK [TIM2_CH1], 16 PC6 (HS)/SPI_MOSI [TIM1_CH1], 17 PC7 (HS)/SPI_MISO [TIM1_CH2], 18 PD1(HS)SWIM, 19 PD2 (HS)/AIN3/[TIM2_CH3], 20 PD3 (HS)/AIN4/TIM2_CH2/ADC_ETR